# Altium schematic symbol library Componentes Deived Projetos.SchLib: 211 symbols (part 1 of 3)
Pins are listed as number, name and electrical type; pins without a type are passive.

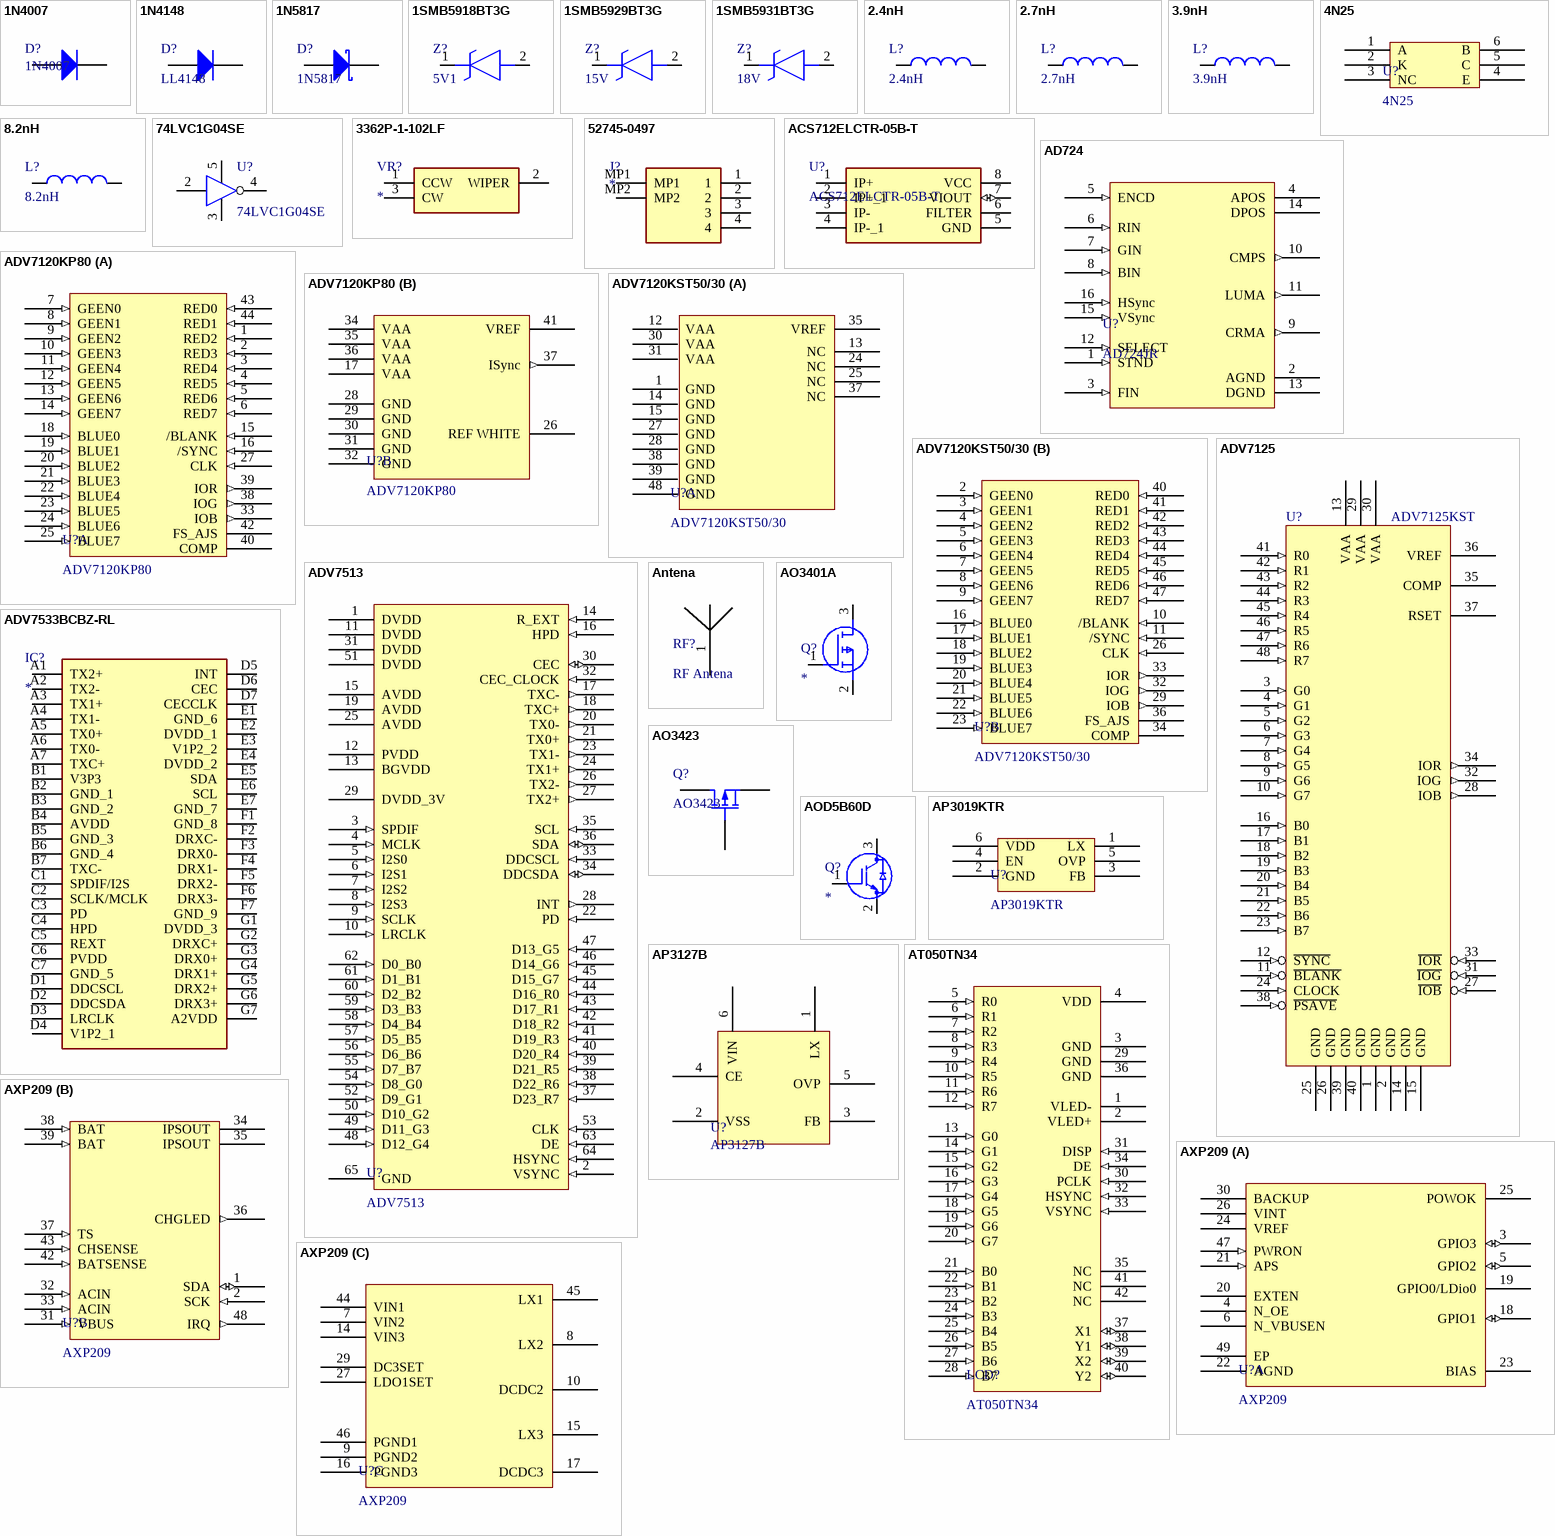
[diagram p0: symbols 1N4007 to AXP209]

## 1N4007
designator D?
1A Rectifier Diodes
footprint DO41
pins: 1 A, 2 K

## 1N4148
designator D?, comment LL4148
Small Signal Fast Switching Diode
footprint MELFDIODE
pins: 1 K, 2 A

## 1N5817
designator D?
Schottky diode Barrier Rectifier
pins: A, K

## 1SMB5918BT3G
designator Z?, comment 5V1
3 Watt Plastic Surface Mount Zener Voltage Regulators; Manufacturer_Name: ON Semiconductor; Manufacturer_Part_Number: 1SMB5931BT3G; Datasheet Link: http://www.onsemi.com/pub/Collateral/1SMB5913BT3-D.PDF; Height: 2.47mm; Mouser Part Number: 863-1SMB5931BT3G; Mouser Price/Stock: https://www.mouser.co.uk/ProductDetail/ON-Semiconductor/1SMB5931BT3G/?qs=vLkC5FC1VN903PRAv1AUyg%3D%3D; Arrow Part Number: 1SMB5931BT3G; Arrow Price/Stock: https://www.arrow.com/en/products/1smb5931bt3g/on-semiconductor
footprint DIOM5436X247N
pins: 1 K, 2 A

## 1SMB5929BT3G
designator Z?, comment 15V
3 Watt Plastic Surface Mount Zener Voltage Regulators; Manufacturer_Name: ON Semiconductor; Manufacturer_Part_Number: 1SMB5931BT3G; Datasheet Link: http://www.onsemi.com/pub/Collateral/1SMB5913BT3-D.PDF; Height: 2.47mm; Mouser Part Number: 863-1SMB5931BT3G; Mouser Price/Stock: https://www.mouser.co.uk/ProductDetail/ON-Semiconductor/1SMB5931BT3G/?qs=vLkC5FC1VN903PRAv1AUyg%3D%3D; Arrow Part Number: 1SMB5931BT3G; Arrow Price/Stock: https://www.arrow.com/en/products/1smb5931bt3g/on-semiconductor
footprint DIOM5436X247N
pins: 1 K, 2 A

## 1SMB5931BT3G
designator Z?, comment 18V
3 Watt Plastic Surface Mount Zener Voltage Regulators; Manufacturer_Name: ON Semiconductor; Manufacturer_Part_Number: 1SMB5931BT3G; Datasheet Link: http://www.onsemi.com/pub/Collateral/1SMB5913BT3-D.PDF; Height: 2.47mm; Mouser Part Number: 863-1SMB5931BT3G; Mouser Price/Stock: https://www.mouser.co.uk/ProductDetail/ON-Semiconductor/1SMB5931BT3G/?qs=vLkC5FC1VN903PRAv1AUyg%3D%3D; Arrow Part Number: 1SMB5931BT3G; Arrow Price/Stock: https://www.arrow.com/en/products/1smb5931bt3g/on-semiconductor
footprint DIOM5436X247N
pins: 1 K, 2 A

## 2.4nH
designator L?
Chip Inductor +-5%
footprint 0603L
pins: 1, 2

## 2.7nH
designator L?
Chip Inductor +-5%
footprint 0603L
pins: 1, 2

## 3.9nH
designator L?
Chip Inductor +-5%
footprint 0603L
pins: 1, 2

## 4N25
designator U?
Optocoupler, Phototransistor Output, with Base Connection
footprint DIP6
pins: 1 A, 2 K, 3 NC, 4 E, 5 C, 6 B

## 8.2nH
designator L?
Chip Inductor +-5%
footprint 0603L
pins: 1, 2

## 74LVC1G04SE
designator U?
Single inverter gate with a standard push-pull output. (1.65V to 5.5V); Footprint: SOT353
pins: 1 NC hidden, 2 A, 3 GND, 4 Y, 5 VCC

## 3362P-1-102LF
designator VR?
Variable Resistor
footprint 3362P_1
pins: 1 CCW, 2 WIPER, 3 CW

## 52745-0497
designator J?
Connector
footprint 527450497
pins: 1, 2, 3, 4, MP1, MP2

## ACS712ELCTR-05B-T
designator U?
Fully Integrated, Hall Effect-Based Linear Current Sensor / with 2.1 kVRMS Voltage Isolation and a Low-Resistance Current Conductor
footprint SOIC127P600X175-8N
pins: 1 IP+, 2 IP+_1, 3 IP-, 4 IP-_1, 5 GND (power), 6 FILTER, 7 VIOUT (io), 8 VCC (power)

## AD724
designator U?, comment AD724JR
RGB para NTSC-Video
footprint SOIC16 WISE BODY
pins: 1 STND (in), 2 AGND (power), 3 FIN (in), 4 APOS (power), 5 ENCD (in), 6 RIN (in), 7 GIN (in), 8 BIN (in), 9 CRMA (out), 10 CMPS (out), 11 LUMA (out), 12 SELECT (in), 13 DGND (power), 14 DPOS (power), 15 VSync (in), 16 HSync (in)

## ADV7120KP80
designator U?
CMOS  80 MHz, Triple 8-Bit Video DAC
footprint P- 44A
part A pins: 1 RED2 (in), 2 RED3 (in), 3 RED4 (in), 4 RED5 (in), 5 RED6 (in), 6 RED7 (in), 7 GEEN0 (in), 8 GEEN1 (in), 9 GEEN2 (in), 10 GEEN3 (in), 11 GEEN4 (in), 12 GEEN5 (in), 13 GEEN6 (in), 14 GEEN7 (in), 15 /BLANK (in), 16 /SYNC (in), 18 BLUE0 (in), 19 BLUE1 (in), 20 BLUE2 (in), 21 BLUE3 (in), 22 BLUE4 (in), 23 BLUE5 (in), 24 BLUE6 (in), 25 BLUE7 (in), 27 CLK (in), 33 IOB (out), 38 IOG (out), 39 IOR (out), 40 COMP, 42 FS_AJS, 43 RED0 (in), 44 RED1 (in)
part B pins: 17 VAA, 26 REF WHITE, 28 GND, 29 GND, 30 GND, 31 GND, 32 GND, 34 VAA, 35 VAA, 36 VAA, 37 ISync (out), 41 VREF

## ADV7120KST50/30
designator U?
Triple DAC Video Convert
footprint TQFP-48 - L
part A pins: 1 GND, 12 VAA, 13 NC, 14 GND, 15 GND, 24 NC, 25 NC, 27 GND, 28 GND, 30 VAA, 31 VAA, 35 VREF, 37 NC, 38 GND, 39 GND, 48 GND
part B pins: 2 GEEN0 (in), 3 GEEN1 (in), 4 GEEN2 (in), 5 GEEN3 (in), 6 GEEN4 (in), 7 GEEN5 (in), 8 GEEN6 (in), 9 GEEN7 (in), 10 /BLANK (in), 11 /SYNC (in), 16 BLUE0 (in), 17 BLUE1 (in), 18 BLUE2 (in), 19 BLUE3 (in), 20 BLUE4 (in), 21 BLUE5 (in), 22 BLUE6 (in), 23 BLUE7 (in), 26 CLK (in), 29 IOB (out), 32 IOG (out), 33 IOR (out), 34 COMP, 36 FS_AJS, 40 RED0 (in), 41 RED1 (in), 42 RED2 (in), 43 RED3 (in), 44 RED4 (in), 45 RED5 (in), 46 RED6 (in), 47 RED7 (in)

## ADV7125
designator U?, comment ADV7125KST
footprint LQFP48
pins: 1 GND (power), 2 GND (power), 3 G0 (in), 4 G1 (in), 5 G2 (in), 6 G3 (in), 7 G4 (in), 8 G5 (in), 9 G6 (in), 10 G7 (in), 11 ~{BLANK} (in), 12 ~{SYNC} (in), 13 VAA (power), 14 GND (power), 15 GND (power), 16 B0 (in), 17 B1 (in), 18 B2 (in), 19 B3 (in), 20 B4 (in), 21 B5 (in), 22 B6 (in), 23 B7 (in), 24 CLOCK (in), 25 GND (power), 26 GND (power), 27 ~{IOB} (in), 28 IOB (out), 29 VAA (power), 30 VAA (power), 31 ~{IOG} (in), 32 IOG (out), 33 ~{IOR} (in), 34 IOR (out), 35 COMP, 36 VREF, 37 RSET, 38 ~{PSAVE} (in), 39 GND (power), 40 GND (power), 41 R0 (in), 42 R1 (in), 43 R2 (in), 44 R3 (in), 45 R4 (in), 46 R5 (in), 47 R6 (in), 48 R7 (in)

## ADV7513
designator U?
High Perfomance HDMI Trasmitter
footprint LQFP64
pins: 1 DVDD, 2 VSYNC (in), 3 SPDIF (in), 4 MCLK (in), 5 I2S0 (in), 6 I2S1 (in), 7 I2S2 (in), 8 I2S3 (in), 9 SCLK (in), 10 LRCLK (in), 11 DVDD, 12 PVDD, 13 BGVDD, 14 R_EXT (in), 15 AVDD, 16 HPD (in), 17 TXC- (out), 18 TXC+ (out), 19 AVDD, 20 TX0- (out), 21 TX0+ (out), 22 PD (in), 23 TX1- (out), 24 TX1+ (out), 25 AVDD, 26 TX2- (out), 27 TX2+ (out), 28 INT (out), 29 DVDD_3V, 30 CEC (io), 31 DVDD, 32 CEC_CLOCK (in), 33 DDCSCL (in), 34 DDCSDA (io), 35 SCL (in), 36 SDA (io), 37 D23_R7 (in), 38 D22_R6 (in), 39 D21_R5 (in), 40 D20_R4 (in), 41 D19_R3 (in), 42 D18_R2 (in), 43 D17_R1 (in), 44 D16_R0 (in), 45 D15_G7 (in), 46 D14_G6 (in), 47 D13_G5 (in), 48 D12_G4 (in), 49 D11_G3 (in), 50 D10_G2 (in), 51 DVDD, 52 D9_G1 (in), 53 CLK (in), 54 D8_G0 (in), 55 D7_B7 (in), 56 D6_B6 (in), 57 D5_B5 (in), 58 D4_B4 (in), 59 D3_B3 (in), 60 D2_B2 (in), 61 D1_B1 (in), 62 D0_B0 (in), 63 DE (in), 64 HSYNC (in), 65 GND

## ADV7533BCBZ-RL
designator IC?
Integrated Circuit
footprint BGA49C50P7X7_346X346X66
pins: A1 TX2+, A2 TX2-, A3 TX1+, A4 TX1-, A5 TX0+, A6 TX0-, A7 TXC+, B1 V3P3, B2 GND_1, B3 GND_2, B4 AVDD, B5 GND_3, B6 GND_4, B7 TXC-, C1 SPDIF/I2S, C2 SCLK/MCLK, C3 PD, C4 HPD, C5 REXT, C6 PVDD, C7 GND_5, D1 DDCSCL, D2 DDCSDA, D3 LRCLK, D4 V1P2_1, D5 INT, D6 CEC, D7 CECCLK, E1 GND_6, E2 DVDD_1, E3 V1P2_2, E4 DVDD_2, E5 SDA, E6 SCL, E7 GND_7, F1 GND_8, F2 DRXC-, F3 DRX0-, F4 DRX1-, F5 DRX2-, F6 DRX3-, F7 GND_9, G1 DVDD_3, G2 DRXC+, G3 DRX0+, G4 DRX1+, G5 DRX2+, G6 DRX3+, G7 A2VDD

## Antena
designator RF?, comment RF Antena
Antena RF
pins: 1 "Antena RF"

## AO3401A
designator Q?
MOSFET (P-Channel); Manufacturer_Name: Alpha & Omega Semiconductors; Manufacturer_Part_Number: AO3401A; Datasheet Link: http://www.aosmd.com/pdfs/datasheet/AO3401A.pdf; Height: 1.25mm; Arrow Part Number: AO3401A; Arrow Price/Stock: https://www.arrow.com/en/products/ao3401a/alpha-and-omega-semiconductor?region=nac
footprint SOT95P280X125-3N
pins: 1 G, 2 S, 3 D

## AO3423
designator Q?
20V P-Channel MOSFET
footprint SOT23
pins: 1 D, 2 G, 3 S

## AOD5B60D
designator Q?
600V, 5A Alpha IGBT TM with Diode; Manufacturer_Name: STMicroelectronics; Manufacturer_Part_Number: STGD5NB120SZT4; Datasheet Link: https://www.arrow.com/en/products/stgd5nb120szt4/stmicroelectronics; Height: 2mm; Mouser Part Number: 511-STGD5NB120SZ; Mouser Price/Stock: https://www.mouser.co.uk/ProductDetail/STMicroelectronics/STGD5NB120SZT4?qs=Tj7OqeScv5KzkQtpY0oojQ%3D%3D; Arrow Part Number: STGD5NB120SZT4; Arrow Price/Stock: https://www.arrow.com/en/products/stgd5nb120szt4/stmicroelectronics
footprint LD1117DT33
pins: 1 G, 2 E, 3 C

## AP3019KTR
designator U?
WHITE LED STEP-UP CONVERTER
footprint SOT23-N
pins: 1 LX, 2 GND, 3 FB, 4 EN, 5 OVP, 6 VDD

## AP3127B
designator U?
Step-Up DC/DC Converter Series White LED Backlight Driver
footprint SOT23-N
pins: 1 LX, 2 VSS, 3 FB, 4 CE, 5 OVP, 6 VIN

## AT050TN34
designator LCD?
footprint AT050TN34
pins: 1 VLED- (power), 2 VLED+ (power), 3 GND (power), 4 VDD (power), 5 R0 (in), 6 R1 (in), 7 R2 (in), 8 R3 (in), 9 R4 (in), 10 R5 (in), 11 R6 (in), 12 R7 (in), 13 G0 (in), 14 G1 (in), 15 G2 (in), 16 G3 (in), 17 G4 (in), 18 G5 (in), 19 G6 (in), 20 G7 (in), 21 B0 (in), 22 B1 (in), 23 B2 (in), 24 B3 (in), 25 B4 (in), 26 B5 (in), 27 B6 (in), 28 B7 (in), 29 GND (power), 30 PCLK (in), 31 DISP (in), 32 HSYNC (in), 33 VSYNC (in), 34 DE (in), 35 NC, 36 GND (power), 37 X1 (io), 38 Y1 (io), 39 X2 (io), 40 Y2 (io), 41 NC, 42 NC

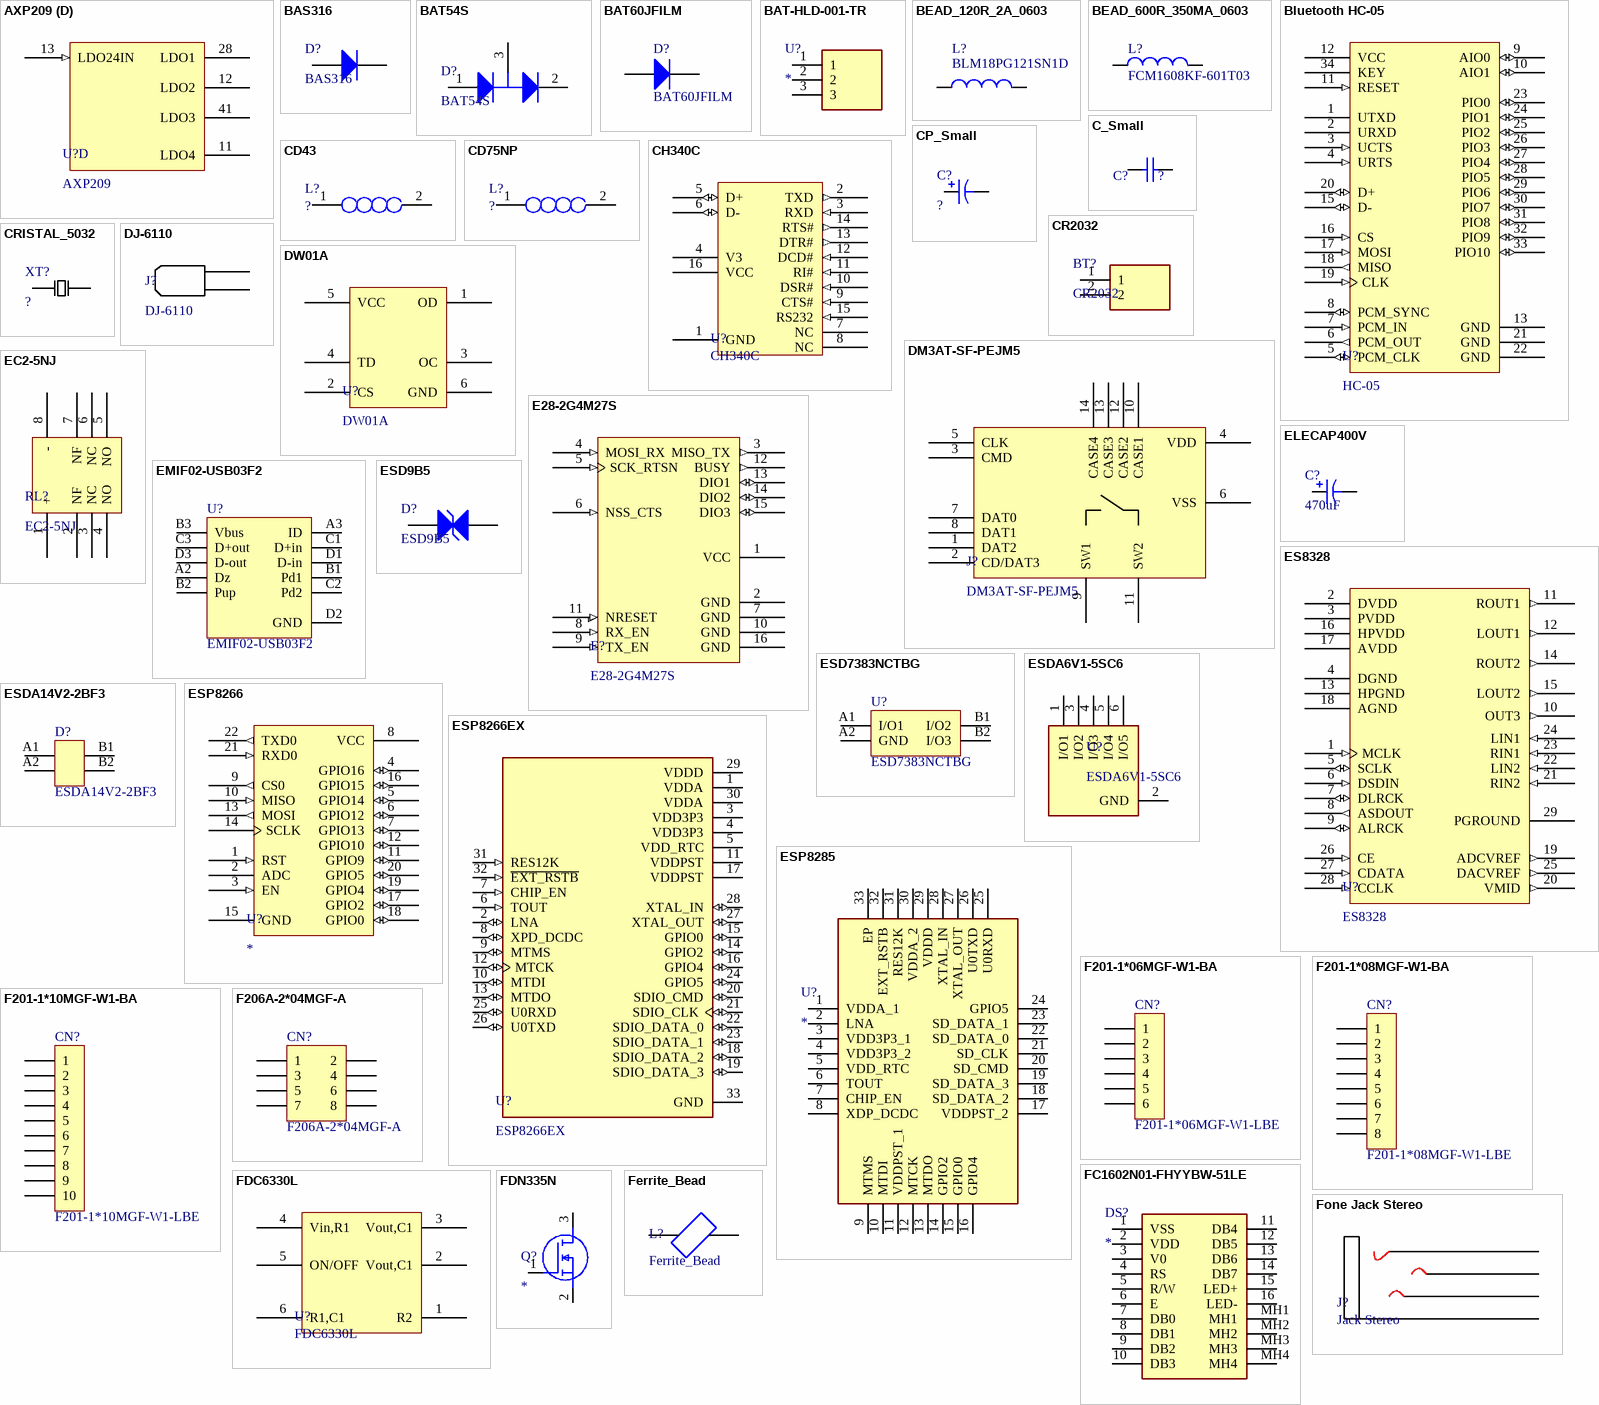
[diagram p1: symbols AXP209 to Fone Jack Stereo]

## AXP209
designator U?
Enhanced single Cell Li-Battery and Power System Management IC
footprint QFN-49
part A pins: 3 GPIO3 (io), 4 N_OE, 5 GPIO2 (io), 6 N_VBUSEN, 18 GPIO1 (io), 19 GPIO0/LDio0, 20 EXTEN, 21 APS (in), 22 AGND, 23 BIAS, 24 VREF, 25 POWOK, 26 VINT, 30 BACKUP, 47 PWRON (in), 49 EP (power)
part B pins: 1 SDA (io), 2 SCK (in), 31 VBUS (in), 32 ACIN (in), 33 ACIN (in), 34 IPSOUT (power), 35 IPSOUT (power), 36 CHGLED (out), 37 TS (in), 38 BAT (in), 39 BAT (in), 42 BATSENSE (in), 43 CHSENSE (in), 48 IRQ (out)
part C pins: 7 VIN2, 8 LX2, 9 PGND2 (power), 10 DCDC2, 14 VIN3, 15 LX3, 16 PGND3 (power), 17 DCDC3, 27 LDO1SET, 29 DC3SET, 44 VIN1, 45 LX1, 46 PGND1 (power)
part D pins: 11 LDO4 (power), 12 LDO2 (power), 13 LDO24IN (in), 28 LDO1 (power), 41 LDO3 (power)

## BAS316
designator D?
Small Signal Fast Switching Diode
footprint SOD323(F)
pins: 1 K, 2 A

## BAT54S
designator D?
Schottky diode Barrier Rectifier
footprint SOT23
pins: 1 A, 2 K, 3 K/A

## BAT60JFILM
designator D?
Revision: July-2002: Re-released for DXP Platform.
footprint DSO-C2/X3.3 (DO-214-AB/SMC; 2 C-Bend Leads; Body 7.9 x 5.9 mm, inc. leads (LxW))
footprint SOD323/A
pins: 1 A, 2 K

## BAT-HLD-001-TR
designator U?
Undefined or Miscellaneous
footprint BATHLD001TR
pins: 1, 2, 3

## BEAD_120R_2A_0603
designator L?, comment BLM18PG121SN1D
Bead,120R,2A,0603,BLM18PG121SN1D,MURATA; Revision: July-2002: Re-released for DXP Platform.
footprint 0603 (Footprint not found)
footprint 0603L
pins: 1, 2

## BEAD_600R_350MA_0603
designator L?, comment FCM1608KF-601T03
Bead,600R,350mA,0603,FCM1608KF-601T03,Tai-tech; Revision: July-2002: Re-released for DXP Platform.
footprint 0603 (Footprint not found)
footprint 0603L
pins: 1, 2

## Bluetooth HC-05
designator U?, comment HC-05
Modulo Bluetooth HC-05
footprint LCC42
pins: 1 UTXD, 2 URXD, 3 UCTS (in), 4 URTS (in), 5 PCM_CLK (io), 6 PCM_OUT (out), 7 PCM_IN (in), 8 PCM_SYNC (io), 9 AIO0 (io), 10 AIO1 (io), 11 RESET (in), 12 VCC (power), 13 GND, 15 D- (io), 16 CS (in), 17 MOSI (in), 18 MISO (out), 19 CLK (in), 20 D+ (io), 21 GND, 22 GND, 23 PIO0 (io), 24 PIO1 (io), 25 PIO2 (io), 26 PIO3 (io), 27 PIO4 (io), 28 PIO5 (io), 29 PIO6 (io), 30 PIO7 (io), 31 PIO8 (io), 32 PIO9 (io), 33 PIO10 (io), 34 KEY

## C_Small
designator C?, comment ?
Revision: July-2002: Re-released for DXP Platform.
footprint 0805C
footprint TAN-A
footprint 0603C
pins: 1, 2

## CD43
designator L?, comment ?
Inductor
footprint CD43NP
pins: 1, 2

## CD75NP
designator L?, comment ?
Inductor
footprint CD75NP
pins: 1, 2

## CH340C
designator U?
footprint NSO16_M (16-Pin Small Outline Integrated Circuit 1.27 mm Pitch, IPC Low Density)
pins: 1 GND, 2 TXD (out), 3 RXD (in), 4 V3, 5 D+ (io), 6 D- (io), 7 NC, 8 NC, 9 CTS# (in), 10 DSR# (in), 11 RI# (in), 12 DCD# (in), 13 DTR# (out), 14 RTS# (out), 15 RS232 (in), 16 VCC

## CP_Small
designator C?, comment ?
Capacitor Eletrolitico
footprint POL_CAP400V
pins: 1, 2

## CR2032
designator BT?
Conector Battery CR2032
footprint socket_CR2032
pins: 1, 2

## CRISTAL_5032
designator XT?, comment ?
Cristal oscilator 5032
footprint 5032
pins: 1, 2

## DJ-6110
designator J?
Terminal Espada Macho DJ-6110 6,3x0,8
footprint DJ-6110
pins: 1, 2

## DM3AT-SF-PEJM5
designator J?
Conector micro SD push/push
footprint SD CARD MICRO
pins: 1 DAT2, 2 CD/DAT3, 3 CMD, 4 VDD, 5 CLK, 6 VSS, 7 DAT0, 8 DAT1, 9 SW1, 10 CASE1, 11 SW2, 12 CASE2, 13 CASE3, 14 CASE4

## DW01A
designator U?
One Cell Lithium-ion/Polymer Battery Protection IC
footprint SOT23-N
pins: 1 OD, 2 CS, 3 OC, 4 TD, 5 VCC, 6 GND

## E28-2G4M27S
designator E?
footprint E28-2G4M27S
pins: 1 VCC, 2 GND, 3 MISO_TX (out), 4 MOSI_RX (in), 5 SCK_RTSN (in), 6 NSS_CTS (in), 7 GND, 8 RX_EN (in), 9 TX_EN (in), 10 GND, 11 NRESET (in), 12 BUSY (out), 13 DIO1 (io), 14 DIO2 (io), 15 DIO3 (io), 16 GND

## EC2-5NJ
designator RL?
NEC Relé 5v EC2-5NJ
pins: 1 +, 2 NF, 3 NC, 4 NO, 5 NO, 6 NC, 7 NF, 8 -

## ELECAP400V
designator C?, comment 470uF
Capacitor Eletrolitico 400V
footprint POL_CAP400V
pins: 1, 2

## EMIF02-USB03F2
designator U?
2-line IPAD, EMI filter including ESD protection
footprint Flip Chip (BGA, 11-Leads, Body 1.5x2mm, Pitch 0.5mm,)
pins: A2 Dz, A3 ID, B1 Pd1, B2 Pup, B3 Vbus, C1 D+in, C2 Pd2, C3 D+out, D1 D-in, D2 GND, D3 D-out

## ES8328
designator U?
Low Power Estereo Audio Codec With HeadPhone Amplifier
footprint QFN-28L
pins: 1 MCLK (in), 2 DVDD (power), 3 PVDD (power), 4 DGND, 5 SCLK (io), 6 DSDIN (in), 7 DLRCK (io), 8 ASDOUT (out), 9 ALRCK (io), 10 OUT3 (out), 11 ROUT1 (out), 12 LOUT1 (out), 13 HPGND, 14 ROUT2 (out), 15 LOUT2 (out), 16 HPVDD (power), 17 AVDD, 18 AGND, 19 ADCVREF (out), 20 VMID (out), 21 RIN2 (in), 22 LIN2 (in), 23 RIN1 (in), 24 LIN1 (in), 25 DACVREF (out), 26 CE (in), 27 CDATA (in), 28 CCLK (in), 29 PGROUND

## ESD9B5
designator D?
ESD PROTECTION DIODE
footprint SOD-923
pins: 1, 2

## ESD7383NCTBG
designator U?
3-line low capacitance protection for high speed USB
footprint ESD_WLCSP4_CASE-567CB_0P80X0P80_P040
pins: A1 I/O1, A2 GND, B1 I/O2, B2 I/O3

## ESDA6V1-5SC6
designator U?
TRANSIL™ ARRAY FOR ESD PROTECTION
footprint SOT95P280X100-6N
pins: 1 I/O1, 2 GND, 3 I/O2, 4 I/O3, 5 I/O4, 6 I/O5

## ESDA14V2-2BF3
designator D?
Quad bidirectional Transil array for ESD protection
footprint BGA4_1X1 (Footprint not found)
pins: A1, A2, B1, B2

## ESP8266
designator U?
Modulo WIFI ESP8266
footprint LCC28
pins: 1 RST (in), 2 ADC, 3 EN (in), 4 GPIO16 (io), 5 GPIO14 (io), 6 GPIO12 (io), 7 GPIO13 (io), 8 VCC, 9 CS0 (out), 10 MISO (in), 11 GPIO9 (io), 12 GPIO10 (io), 13 MOSI (out), 14 SCLK, 15 GND, 16 GPIO15 (io), 17 GPIO2 (io), 18 GPIO0 (io), 19 GPIO4 (io), 20 GPIO5 (io), 21 RXD0 (in), 22 TXD0 (out)

## ESP8266EX
designator U?
IC RF TxRx + MCU WiFi 802.11b/g/n 2.4GHz 32-VFQFN Exposed Pad; MF: Espressif Systems; SnapEDA_Link: https://www.snapeda.com/parts/ESP8266EX/Espressif%20Systems/view-part/555861/?ref=snap; Value: *; Purchase-URL: https://pricing.snapeda.com/search/part/ESP8266EX/?ref=eda; Price: None; Availability: Warning; MP: ESP8266EX; Package: VFQFN-32 Espressif Systems; Check_prices: https://www.snapeda.com/parts/ESP8266EX/Espressif%20Systems/view-part/555861/?ref=eda
footprint QFN50P500X500X80-33N
pins: 1 VDDA (power), 2 LNA (io), 3 VDD3P3 (power), 4 VDD3P3 (power), 5 VDD_RTC (power), 6 TOUT (in), 7 CHIP_EN (in), 8 XPD_DCDC (io), 9 MTMS (io), 10 MTDI (io), 11 VDDPST (power), 12 MTCK (io), 13 MTDO (io), 14 GPIO2 (io), 15 GPIO0 (io), 16 GPIO4 (io), 17 VDDPST (power), 18 SDIO_DATA_2 (io), 19 SDIO_DATA_3 (io), 20 SDIO_CMD (io), 21 SDIO_CLK (io), 22 SDIO_DATA_0 (io), 23 SDIO_DATA_1 (io), 24 GPIO5 (io), 25 U0RXD (io), 26 U0TXD (io), 27 XTAL_OUT (io), 28 XTAL_IN (io), 29 VDDD (power), 30 VDDA (power), 31 RES12K (in), 32 ~{EXT_RSTB} (in), 33 GND (power)

## ESP8285
designator U?
Integrated Circuit; Manufacturer_Name: Espressif Systems; Manufacturer_Part_Number: ESP8285; Datasheet Link: http://espressif.com/sites/default/files/documentation/0a-esp8285_datasheet_en.pdf; Height: 0.9mm; Mouser Part Number: 356-ESP8285; Mouser Price/Stock: https://www.mouser.co.uk/ProductDetail/Espressif-Systems/ESP8285?qs=chTDxNqvsyn49Ad%252BqWdhIQ%3D%3D
footprint QFN50P500X500X90-33N-D
pins: 1 VDDA_1, 2 LNA, 3 VDD3P3_1, 4 VDD3P3_2, 5 VDD_RTC, 6 TOUT, 7 CHIP_EN, 8 XDP_DCDC, 9 MTMS, 10 MTDI, 11 VDDPST_1, 12 MTCK, 13 MTDO, 14 GPIO2, 15 GPIO0, 16 GPIO4, 17 VDDPST_2, 18 SD_DATA_2, 19 SD_DATA_3, 20 SD_CMD, 21 SD_CLK, 22 SD_DATA_0, 23 SD_DATA_1, 24 GPIO5, 25 U0RXD, 26 U0TXD, 27 XTAL_OUT, 28 XTAL_IN, 29 VDDD, 30 VDDA_2, 31 RES12K, 32 EXT_RSTB, 33 EP

## F201-1*06MGF-W1-BA
designator CN?, comment F201-1*06MGF-W1-LBE
Header, 6-Pins, Single row, female SMD
footprint HDR2X17 (Connector; Header; 17x2 Position)
signal-integrity model Connector
footprint 1*6P_FEMALE (Footprint not found)
footprint 1*6P_FEMALE_SMD
footprint SSW-106-22-X-S-VS
footprint F201-1*06MGF-W1-BA (Footprint not found)
pins: 1, 2, 3, 4, 5, 6

## F201-1*08MGF-W1-BA
designator CN?, comment F201-1*08MGF-W1-LBE
Header, 8-Pins, Single row, female SMD
signal-integrity model Connector
footprint F201-1*08MGF-W1-BA (Footprint not found)
pins: 1, 2, 3, 4, 5, 6, 7, 8

## F201-1*10MGF-W1-BA
designator CN?, comment F201-1*10MGF-W1-LBE
Header, 10-Pins, Single row, female SMD
signal-integrity model Connector
footprint F201-1*10MGF-W1-BA (Footprint not found)
pins: 1, 2, 3, 4, 5, 6, 7, 8, 9, 10

## F206A-2*04MGF-A
designator CN?
Header, 5-Pins, Horizontal Dual row, female SMD; Revision: 17-Jul-2002: Re-released for DXP Platform.
footprint SSM-104-L-DH
footprint F206A-2*04MGF-A (Footprint not found)
pins: 1, 2, 3, 4, 5, 6, 7, 8

## FC1602N01-FHYYBW-51LE
designator DS?
Display
footprint FC1602N01FHYYBW51LE
pins: 1 VSS, 2 VDD, 3 V0, 4 RS, 5 R/W, 6 E, 7 DB0, 8 DB1, 9 DB2, 10 DB3, 11 DB4, 12 DB5, 13 DB6, 14 DB7, 15 LED+, 16 LED-, MH1, MH2, MH3, MH4

## FDC6330L
designator U?
This device is particularly suited for compact power / management in portable electronic equipment where 3V / to 20V input and 2.3A output current capability are needed.
footprint SOT23-N
pins: 1 R2, 2 Vout,C1, 3 Vout,C1, 4 Vin,R1, 5 ON/OFF, 6 R1,C1

## FDN335N
designator Q?
MOSFET (N-Channel); Manufacturer_Name: ON Semiconductor; Manufacturer_Part_Number: FDN335N; Datasheet Link: https://pdf1.alldatasheet.com/datasheet-pdf/view/51379/FAIRCHILD/FDN335N.html; Height: 1.12mm; Mouser Part Number: 512-FDN335N; Mouser Price/Stock: https://www.mouser.co.uk/ProductDetail/ON-Semiconductor-Fairchild/FDN335N?qs=mdiO5HdF0KhZ%2F6bKTj3K6A%3D%3D; Arrow Part Number: FDN335N; Arrow Price/Stock: https://www.arrow.com/en/products/fdn335n/on-semiconductor
footprint SOT95P251X112-3N
pins: 1 G, 2 S, 3 D

## Ferrite_Bead
designator L?
Ferrite Bead; Revision: July-2002: Re-released for DXP Platform.
footprint 0603 (Footprint not found)
footprint 0603L
footprint 1206L
pins: 1, 2

## Fone Jack Stereo
designator J?, comment Jack Stereo
footprint PJ320A
pins: 2, 3, 4, 5 (power)

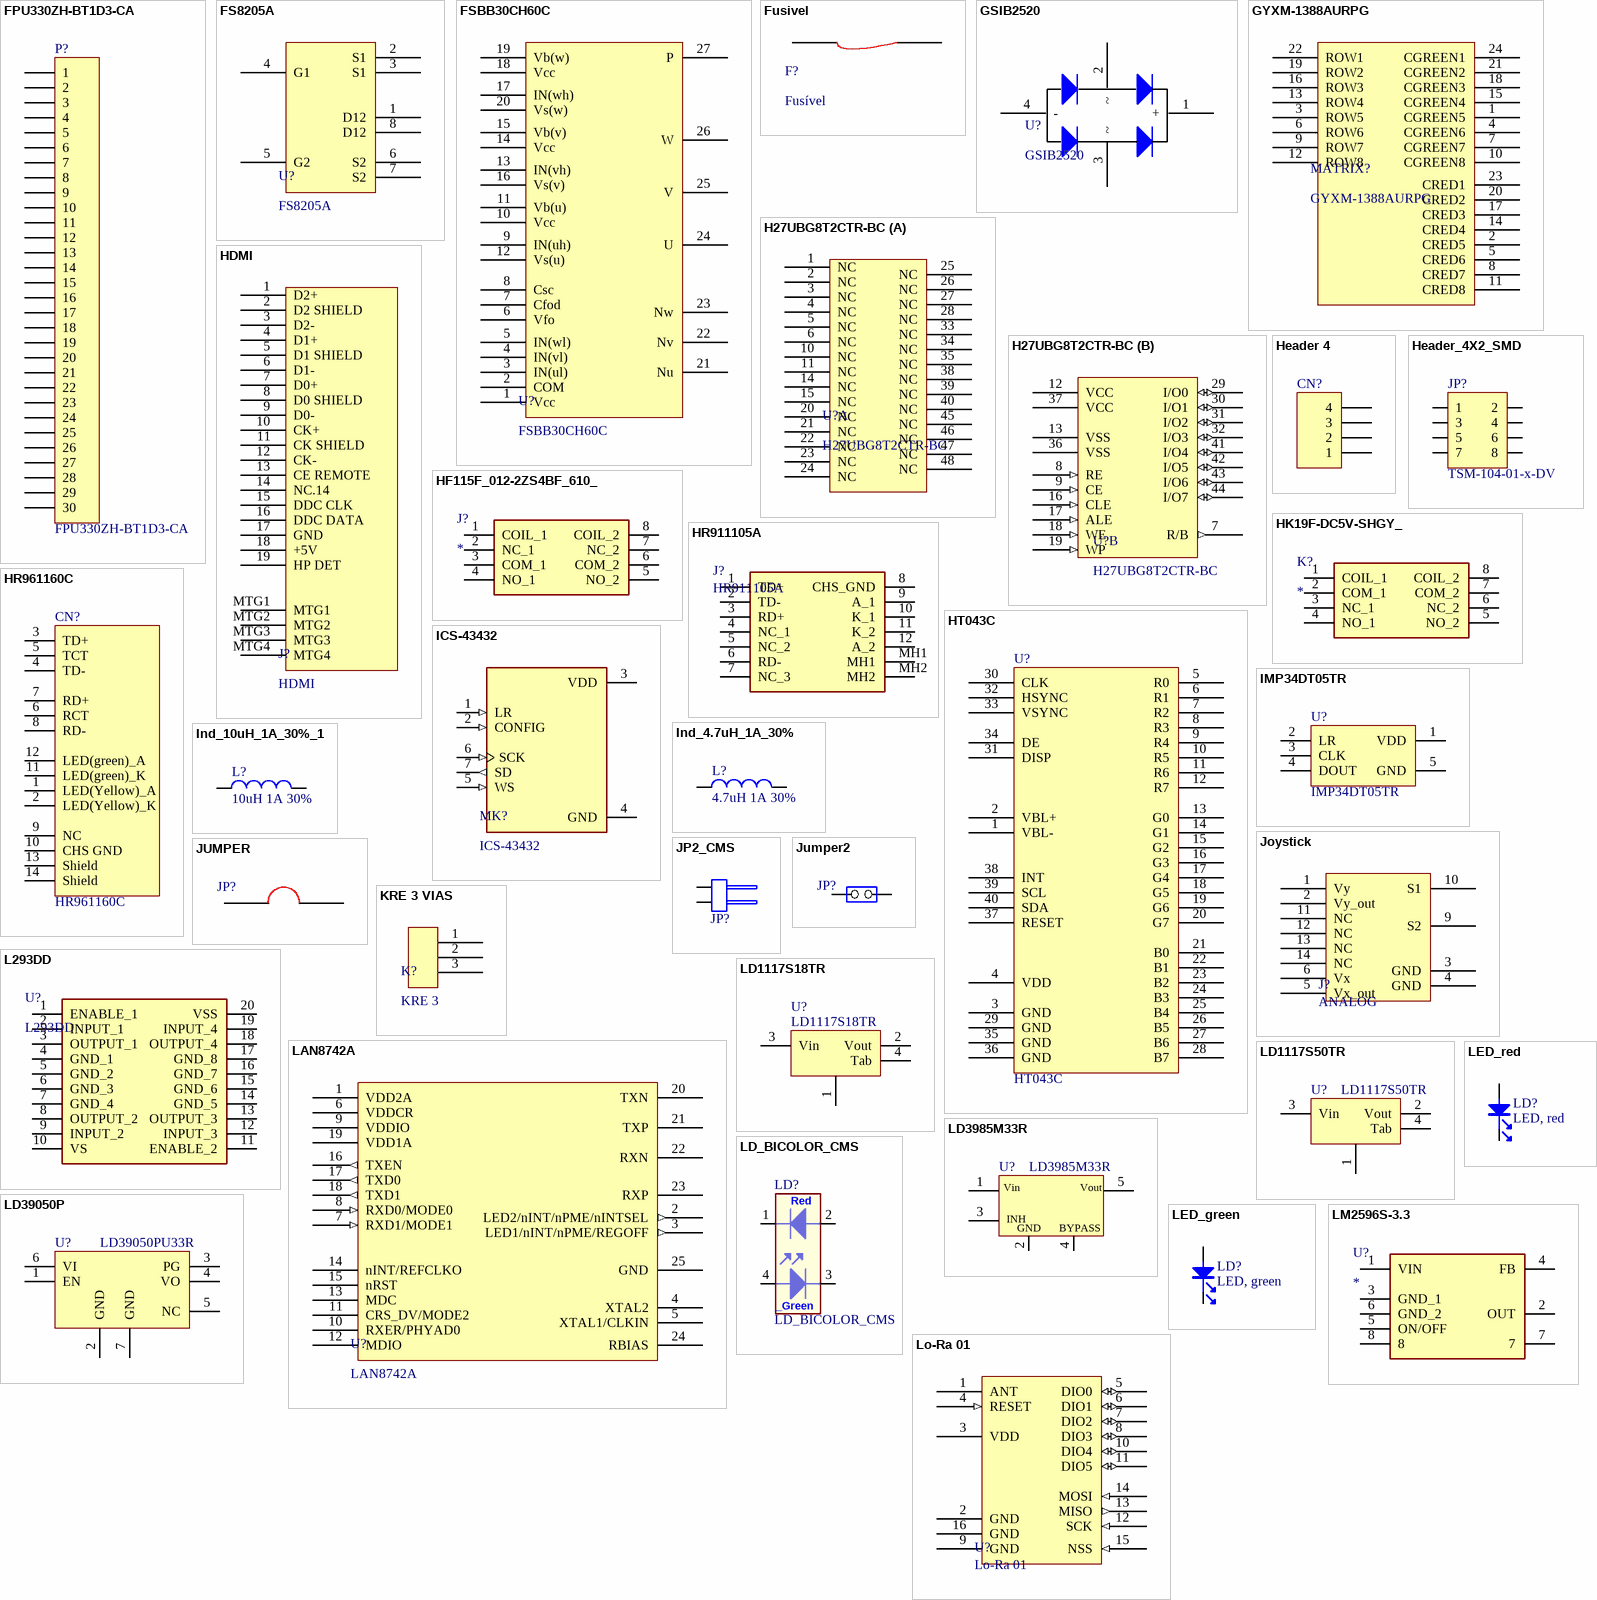
[diagram p2: symbols FPU330ZH-BT1D3-CA to Lo-Ra 01]

## FPU330ZH-BT1D3-CA
designator P?
TOWNES -  Connector FFC/FPC ZIF 0.5mm 30 pins, Lower Contacts
signal-integrity model Connector
footprint FPU330ZH-BT1D3-CA (Footprint not found)
pins: 1, 2, 3, 4, 5, 6, 7, 8, 9, 10, 11, 12, 13, 14, 15, 16, 17, 18, 19, 20, 21, 22, 23, 24, 25, 26, 27, 28, 29, 30

## FS8205A
designator U?
Dual N-Channel Enhancement Mode Power MOSFET
footprint TSSOP8 (Shrink Small Outline, Plastic, Thin; 8 Leads; Body Width 4.4 mm; Pitch 0.65 mm)
pins: 1 D12, 2 S1, 3 S1, 4 G1, 5 G2, 6 S2, 7 S2, 8 D12

## FSBB30CH60C
designator U?
Smart Power Module
footprint NADA_VER
pins: 1 Vcc, 2 COM, 3 IN(ul), 4 IN(vl), 5 IN(wl), 6 Vfo, 7 Cfod, 8 Csc, 9 IN(uh), 10 Vcc, 11 Vb(u), 12 Vs(u), 13 IN(vh), 14 Vcc, 15 Vb(v), 16 Vs(v), 17 IN(wh), 18 Vcc, 19 Vb(w), 20 Vs(w), 21 Nu, 22 Nv, 23 Nw, 24 U, 25 V, 26 W, 27 P

## Fusivel
designator F?, comment Fusível
Porta Fusível 250V 5x20
footprint AS-06
pins: 1, 2

## GSIB2520
designator U?
Single-Phase Single In-Line Bridge Rectifiers
footprint Single-Phase Single In-Line Bridge Rectifiers
pins: 1 +, 2 ~, 3 ~, 4 -

## GYXM-1388AURPG
designator MATRIX?
Dot Matrix Display
footprint DIP24
pins: 1 CGREEN5, 2 CRED5, 3 ROW5, 4 CGREEN6, 5 CRED6, 6 ROW6, 7 CGREEN7, 8 CRED7, 9 ROW7, 10 CGREEN8, 11 CRED8, 12 ROW8, 13 ROW4, 14 CRED4, 15 CGREEN4, 16 ROW3, 17 CRED3, 18 CGREEN3, 19 ROW2, 20 CRED2, 21 CGREEN2, 22 ROW1, 23 CRED1, 24 CGREEN1

## H27UBG8T2CTR-BC
designator U?
32Gb(4096M x 8bit) Nand Flash
footprint TSOP-48
part A pins: 1 NC, 2 NC, 3 NC, 4 NC, 5 NC, 6 NC, 10 NC, 11 NC, 14 NC, 15 NC, 20 NC, 21 NC, 22 NC, 23 NC, 24 NC, 25 NC, 26 NC, 27 NC, 28 NC, 33 NC, 34 NC, 35 NC, 38 NC, 39 NC, 40 NC, 45 NC, 46 NC, 47 NC, 48 NC
part B pins: 7 R/B (out), 8 RE (in), 9 CE (in), 12 VCC, 13 VSS, 16 CLE (in), 17 ALE (in), 18 WE (in), 19 WP (in), 29 I/O0 (io), 30 I/O1 (io), 31 I/O2 (io), 32 I/O3 (io), 36 VSS, 37 VCC, 41 I/O4 (io), 42 I/O5 (io), 43 I/O6 (io), 44 I/O7 (io)

## HDMI
designator J?
CONECTOR HDMI
footprint HDMI
pins: 1 D2+, 2 D2 SHIELD, 3 D2-, 4 D1+, 5 D1 SHIELD, 6 D1-, 7 D0+, 8 D0 SHIELD, 9 D0-, 10 CK+, 11 CK SHIELD, 12 CK-, 13 CE REMOTE, 14 NC.14, 15 DDC CLK, 16 DDC DATA, 17 GND, 18 +5V, 19 HP DET, MTG1, MTG2, MTG3, MTG4

## Header 4
designator CN?  (value not drawn)
Header, 4-Pin; Revision: 17-Jul-2002: Re-released for DXP Platform.
signal-integrity model Connector
footprint Header 4
pins: 1, 2, 3, 4

## Header_4X2_SMD
designator JP?, comment TSM-104-01-x-DV
Header, 4-Pins, Double row Vertical, SMD, 2.54
signal-integrity model Connector
footprint TSM-104-01-x-DV (Footprint not found)
pins: 1, 2, 3, 4, 5, 6, 7, 8

## HF115F_012-2ZS4BF_610_
designator J?
Connector
footprint HF115F0122ZS4BF610
pins: 1 COIL_1, 2 NC_1, 3 COM_1, 4 NO_1, 5 NO_2, 6 COM_2, 7 NC_2, 8 COIL_2

## HK19F-DC5V-SHGY_
designator K?
Relay or Contactor
footprint HK19FDC5VSHGY
pins: 1 COIL_1, 2 COM_1, 3 NC_1, 4 NO_1, 5 NO_2, 6 NC_2, 7 COM_2, 8 COIL_2

## HR911105A
designator J?
Single Port RJ45 Connector with Module and LED
footprint HR911105A
pins: 1 TD+, 2 TD-, 3 RD+, 4 NC_1, 5 NC_2, 6 RD-, 7 NC_3, 8 CHS_GND, 9 A_1, 10 K_1, 11 K_2, 12 A_2, MH1, MH2

## HR961160C
designator CN?
100 Base-TX (Fast Ethernet) SMD RJ45 single port (1x1) with LEDS Integrated Magnetics Connector
pins: 1 LED(Yellow)_A, 2 LED(Yellow)_K, 3 TD+, 4 TD-, 5 TCT, 6 RCT, 7 RD+, 8 RD-, 9 NC, 10 CHS GND, 11 LED(green)_K, 12 LED(green)_A, 13 Shield, 14 Shield

## HT043C
designator U?
4.3 inch TFT 480*272 pixels with LED Backlight and Capacitive touch panel, high luminance
footprint LCD_Kunjian_ HT043C_40P_P080_FLEX_FOLDED
pins: 1 VBL-, 2 VBL+, 3 GND, 4 VDD, 5 R0, 6 R1, 7 R2, 8 R3, 9 R4, 10 R5, 11 R6, 12 R7, 13 G0, 14 G1, 15 G2, 16 G3, 17 G4, 18 G5, 19 G6, 20 G7, 21 B0, 22 B1, 23 B2, 24 B3, 25 B4, 26 B5, 27 B6, 28 B7, 29 GND, 30 CLK, 31 DISP, 32 HSYNC, 33 VSYNC, 34 DE, 35 GND, 36 GND, 37 RESET, 38 INT, 39 SCL, 40 SDA

## ICS-43432
designator MK?
50Hz ~ 20kHz Digital, IÂ²S Microphone MEMS (Silicon) 1.62V ~ 3.63V Omnidirectional (-26dB Â±1dB @ 94dB SPL) Solder Pads; MF: TDK InvenSense; MP: ICS-43432; Purchase-URL: https://pricing.snapeda.com/search/part/ICS-43432/?ref=eda; SnapEDA_Link: https://www.snapeda.com/parts/ICS-43432/TDK%20InvenSense/view-part/4702015/?ref=snap; Availability: Good; Package: QFN-16 TDK InvenSense; Value: *; Price: None
footprint MIC_ICS-43432
pins: 1 LR (in), 2 CONFIG (in), 3 VDD (power), 4 GND (power), 5 WS (in), 6 SCK (in), 7 SD (out)

## IMP34DT05TR
designator U?
MEMS audio sensor omnidirectional digital microphone for industrial applications
footprint HCLGA_3X4X1_4LD
pins: 1 VDD, 2 LR, 3 CLK, 4 DOUT, 5 GND

## Ind_4.7uH_1A_30%
designator L?, comment 4.7uH 1A 30%
FIXED IND 4.7UH 1A 180 MOHM 30% SMD
footprint 1210L (Footprint not found)
pins: 1, 2

## Ind_10uH_1A_30%_1
designator L?, comment 10uH 1A 30%
FIXED IND 10UH 1A 180 MOHM 30% SMD
footprint 0603L
pins: 1, 2

## Joystick
designator J?, comment ANALOG
footprint Joystick
pins: 1 Vy, 2 Vy_out, 3 GND, 4 GND, 5 Vx_out, 6 Vx, 9 S2, 10 S1, 11 NC, 12 NC, 13 NC, 14 NC

## JP2_CMS
designator JP?, comment TSM-102-01-F-SH-A  (value not drawn)
Header, 2-Pins, Single row Horizontal SMD, 2.54
footprint TSM-102-01-F-SH-A
pins: 1 COMMON, 2 NO

## JUMPER
designator JP?  (value not drawn)
footprint 0603
pins: 1 A, 2 B

## Jumper2
designator JP?, comment Jumper 2 pins  (value not drawn)
footprint SIP2/2.54
pins: 1 COMMON, 2 NO

## KRE 3 VIAS
designator K?, comment KRE 3
BORNE KRE 3 VIAS
footprint KRE 3 VIAS
pins: 1, 2, 3

## L293DD
designator U?
PUSH-PULL FOUR CHANNEL DRIVER WITH DIODES; Manufacturer_Name: STMicroelectronics; Datasheet Link: https://www.st.com/resource/en/datasheet/l293d.pdf; Height: 2.65mm; Manufacturer_Part_Number: L293DD; Mouser Part Number: 511-L293DD; Mouser Price/Stock: https://www.mouser.co.uk/ProductDetail/STMicroelectronics/L293DD?qs=m4gxtLzGBzoksItTiSkcgg%3D%3D; Arrow Part Number: L293DD; Arrow Price/Stock: https://www.arrow.com/en/products/l293dd/stmicroelectronics?region=nac
footprint SOIC127P1032X265-20N
pins: 1 ENABLE_1, 2 INPUT_1, 3 OUTPUT_1, 4 GND_1, 5 GND_2, 6 GND_3, 7 GND_4, 8 OUTPUT_2, 9 INPUT_2, 10 VS, 11 ENABLE_2, 12 INPUT_3, 13 OUTPUT_3, 14 GND_5, 15 GND_6, 16 GND_7, 17 GND_8, 18 OUTPUT_4, 19 INPUT_4, 20 VSS

## LAN8742A
designator U?
footprint Quad24
footprint QFN50P400X400X100-25N-D
pins: 1 VDD2A, 2 LED2/nINT/nPME/nINTSEL (out), 3 LED1/nINT/nPME/REGOFF (out), 4 XTAL2, 5 XTAL1/CLKIN, 6 VDDCR, 7 RXD1/MODE1 (in), 8 RXD0/MODE0 (in), 9 VDDIO, 10 RXER/PHYAD0, 11 CRS_DV/MODE2, 12 MDIO, 13 MDC, 14 nINT/REFCLKO, 15 nRST, 16 TXEN (out), 17 TXD0 (out), 18 TXD1 (out), 19 VDD1A, 20 TXN, 21 TXP, 22 RXN, 23 RXP, 24 RBIAS, 25 GND

## LD1117S18TR
designator U?
LOW DROP FIXED AND ADJUSTABLE POSITIVE VOLTAGE REGULATORS (1.8 Volts)
footprint SOT-223
pins: 1, 2 Vout, 3 Vin, 4 Tab
2 alternate drawings of the same symbol

## LD1117S50TR
designator U?
IC REG LDO 5V 0.8A SOT223
footprint SOT-223
pins: 1, 2 Vout, 3 Vin, 4 Tab
2 alternate drawings of the same symbol

## LD3985M33R
designator U?
Ultra low drop-low noise BiCMOS voltage, regulators low ESR capacitors compatible
footprint SOT23-5L
pins: 1 Vin, 2 GND, 3 CE, 4 BYPASS, 5 Vout
text: INH

## LD39050P
designator U?, comment LD39050PU33R
Ultra low drop-low , 500 mA low quiescent current
footprint DFN6_3x3 (Footprint not found)
pins: 1 EN, 2 GND, 3 PG, 4 VO, 5 NC, 6 VI, 7 GND
2 alternate drawings of the same symbol

## LD_BICOLOR_CMS
designator LD?
Bicolor Led; Footprint: HSMF-A201
footprint HSMF-A201
pins: 1, 2, 3, 4
text: Red; _Green

## LED_green
designator LD?, comment LED, green
LED, green, 0603
footprint D0603
footprint 0603D
pins: 1, 2
2 alternate drawings of the same symbol

## LED_red
designator LD?, comment LED, red
LED, red, 0603
footprint D0603
footprint 0603D
pins: 1, 2
2 alternate drawings of the same symbol

## LM2596S-3.3
designator U?
LM2596 SIMPLE SWITCHER® Power Converter 150-kHz / 3-A Step-Down Voltage Regulator; Manufacturer_Name: Texas Instruments; Manufacturer_Part_Number: LM2596S-3.3; Datasheet Link: http://www.ti.com/lit/ds/symlink/lm2596.pdf; Height: 4.65mm; Mouser Part Number: 926-LM2596S-33; Mouser Price/Stock: https://www.mouser.co.uk/ProductDetail/Texas-Instruments/LM2596S-33?qs=X1J7HmVL2ZHnG50G34wg0g%3D%3D; Arrow Part Number: LM2596S-3.3; Arrow Price/Stock: https://www.arrow.com/en/products/lm2596s-3.3/texas-instruments?region=nac
footprint LM2596S33
pins: 1 VIN, 2 OUT, 3 GND_1, 4 FB, 5 ON/OFF, 6 GND_2, 7, 8

## Lo-Ra 01
designator U?
footprint Lo-Ra 01
pins: 1 ANT, 2 GND, 3 VDD, 4 RESET (in), 5 DIO0 (io), 6 DIO1 (io), 7 DIO2 (io), 8 DIO3 (io), 9 GND, 10 DIO4 (io), 11 DIO5 (io), 12 SCK (in), 13 MISO (out), 14 MOSI (in), 15 NSS (in), 16 GND

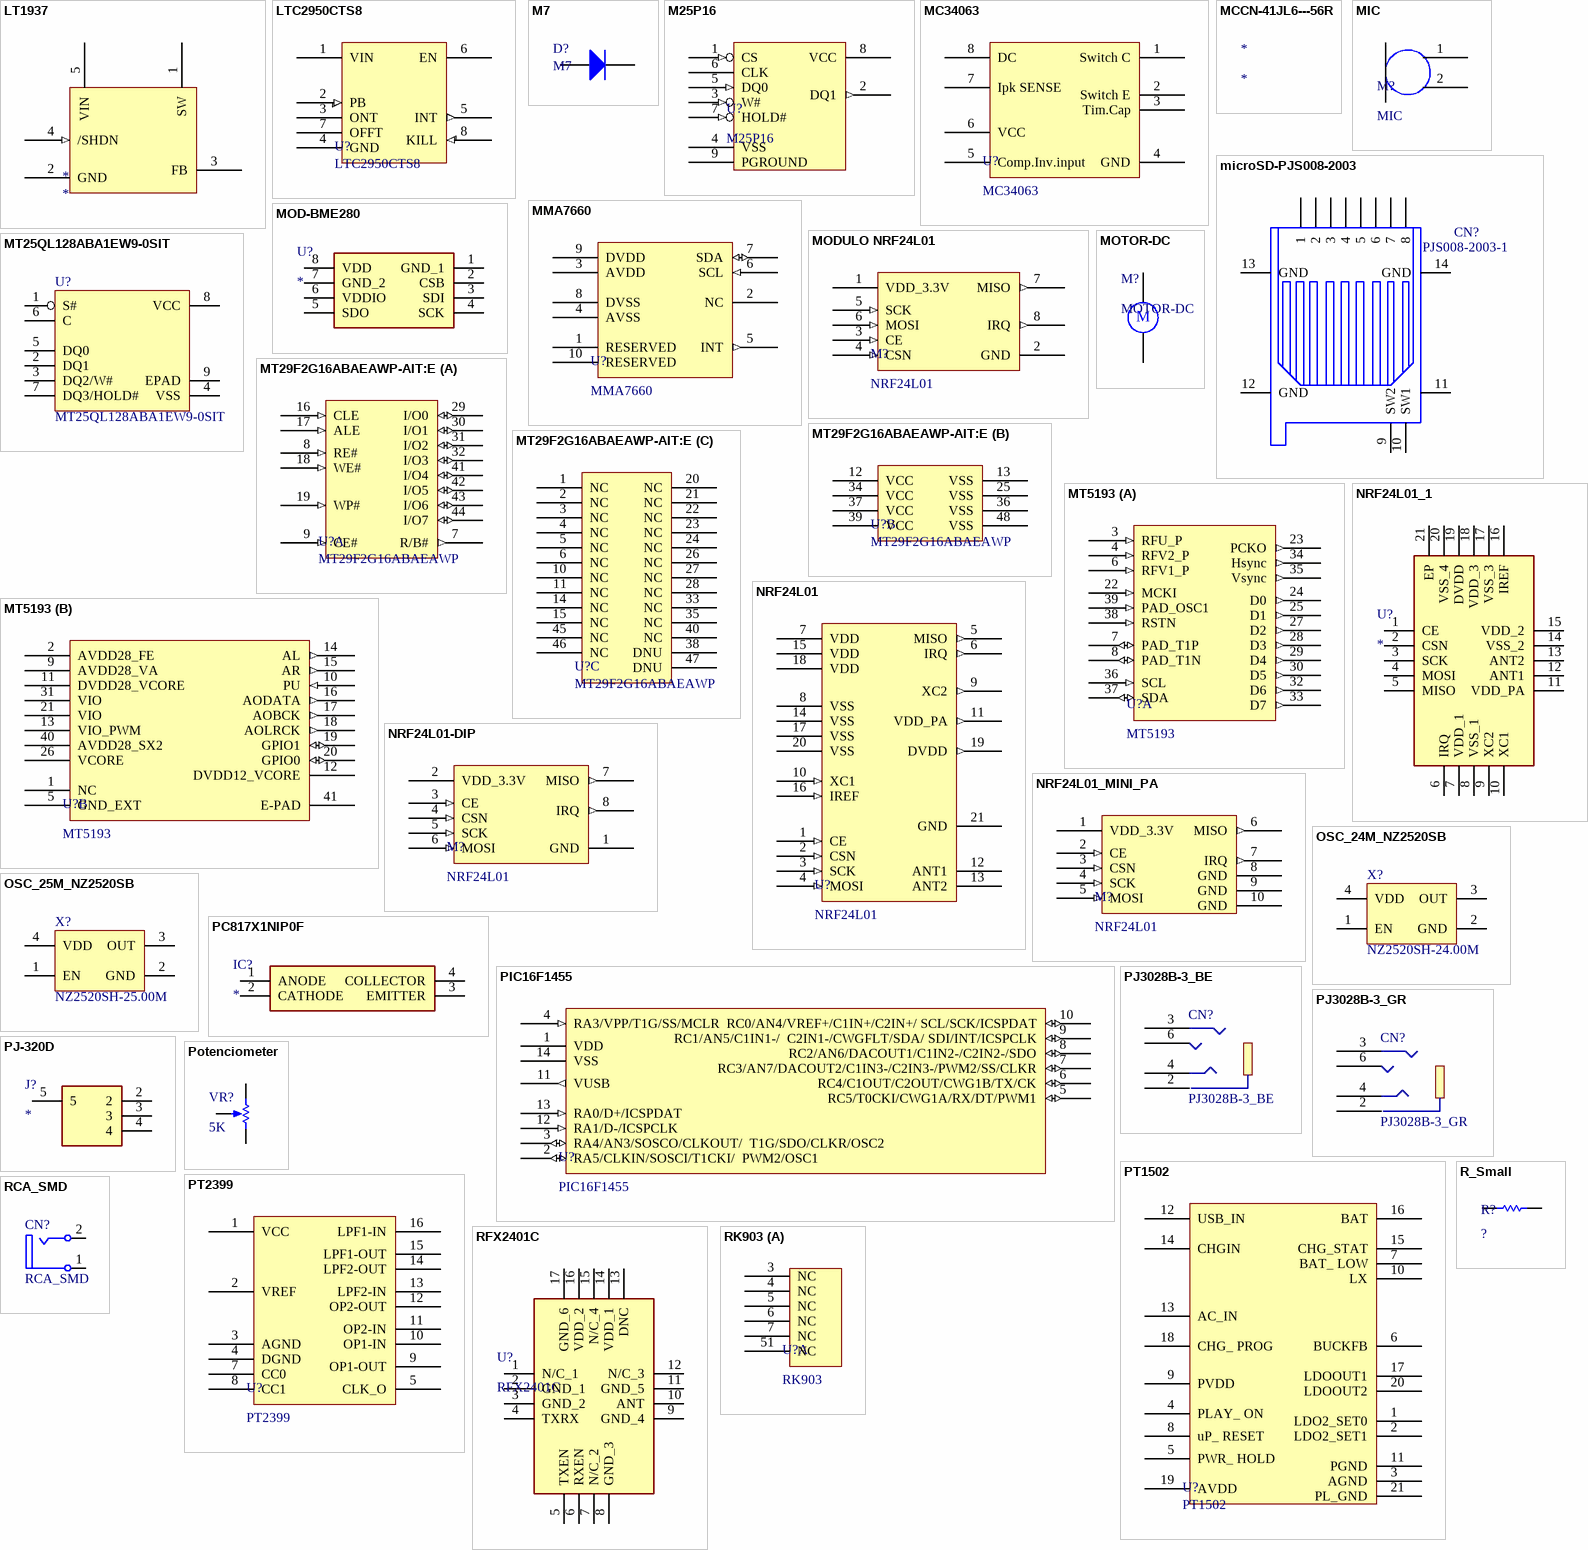
[diagram p3: symbols LT1937 to RK903]

## LT1937
designator *
footprint SOT23-5 (SOT-23/SC-74A; 5 Leads; Body 3 x 3 mm, inc. leads (LxW max))
pins: 1 SW, 2 GND, 3 FB, 4 /SHDN (in), 5 VIN

## LTC2950CTS8
designator U?
footprint SOT23-8
pins: 1 VIN, 2 PB (in), 3 ONT, 4 GND, 5 INT (out), 6 EN, 7 OFFT, 8 KILL (in)

## M7
designator D?
1A Rectifier Diodes
footprint DO-214AC(SMA)
pins: A, K

## M25P16
designator U?
16 Mbit, serial Flash memory, 75 MHz SPI bus interface
footprint VDFPN-8
pins: 1 CS (in), 2 DQ1 (out), 3 W# (in), 4 VSS, 5 DQ0 (in), 6 CLK (power), 7 HOLD# (in), 8 VCC, 9 PGROUND

## MC34063
designator U?
Step Up/Down Inverting Switching 1.5A Regulators
footprint SOIC - 8
pins: 1 Switch C, 2 Switch E, 3 Tim.Cap, 4 GND, 5 Comp.Inv.input, 6 VCC, 7 Ipk SENSE, 8 DC

## MCCN-41JL6---56R
designator *
MULTICOMP   MCCN-41JL6---56R   RESISTOR, ARRAY, 4 X 0201, 56R

## MIC
designator M?
Microfone Eletreto
footprint MIC
pins: 1, 2

## microSD-PJS008-2003
designator CN?, comment PJS008-2003-1
Memory Card Connectors MicroSD Card Conn Revrs Mnt Push-Push
footprint PJS008-2003-1
pins: 1, 2, 3, 4, 5, 6, 7, 8, 9 SW2, 10 SW1, 11 GND, 12 GND, 13 GND, 14 GND

## MMA7660
designator U?
3-Axis Orientation/Motion Detection Sensor
footprint DFN-10L
pins: 1 RESERVED, 2 NC, 3 AVDD, 4 AVSS, 5 INT (out), 6 SCL (in), 7 SDA (io), 8 DVSS, 9 DVDD (power), 10 RESERVED

## MOD-BME280
designator U?
Humidity, Pressure e temperature sensor
pins: 1 GND_1, 2 CSB, 3 SDI, 4 SCK, 5 SDO, 6 VDDIO, 7 GND_2, 8 VDD

## MODULO NRF24L01
designator M?, comment NRF24L01
footprint NRF24L01_1.27mm
footprint NRF24 27mmX12mm
footprint NRF24L01_MINI
pins: 1 VDD_3.3V, 2 GND (power), 3 CE (in), 4 CSN (in), 5 SCK (in), 6 MOSI (in), 7 MISO (out), 8 IRQ (out)

## MOTOR-DC
designator M?
MOTOR DC 3.3V
footprint MOTOR
pins: 1, 2
text: M

## MT25QL128ABA1EW9-0SIT
designator U?
128Mb, 3V, Multiple I/O Serial Flash Memory, Quad/Dual
footprint W-PDFN-8_8X6_P127
pins: 1 S#, 2 DQ1, 3 DQ2/W#, 4 VSS, 5 DQ0, 6 C, 7 DQ3/HOLD#, 8 VCC, 9 EPAD

## MT29F2G16ABAEAWP-AIT:E
designator U?, comment MT29F2G16ABAEAWP
footprint TSOP-48
part A pins: 7 R/B# (out), 8 RE# (in), 9 CE# (in), 16 CLE (in), 17 ALE (in), 18 WE# (in), 19 WP# (in), 29 I/O0 (io), 30 I/O1 (io), 31 I/O2 (io), 32 I/O3 (io), 41 I/O4 (io), 42 I/O5 (io), 43 I/O6 (io), 44 I/O7 (io)
part B pins: 12 VCC (power), 13 VSS (power), 25 VSS (power), 34 VCC (power), 36 VSS (power), 37 VCC (power), 39 VCC (power), 48 VSS (power)
part C pins: 1 NC, 2 NC, 3 NC, 4 NC, 5 NC, 6 NC, 10 NC, 11 NC, 14 NC, 15 NC, 20 NC, 21 NC, 22 NC, 23 NC, 24 NC, 26 NC, 27 NC, 28 NC, 33 NC, 35 NC, 38 DNU, 40 NC, 45 NC, 46 NC, 47 DNU

## MT5193
designator U?
Mobile Analogic TV Receiver SOC
footprint QFN5x5 40PIN
part A pins: 3 RFU_P (in), 4 RFV2_P (in), 6 RFV1_P (in), 7 PAD_T1P (io), 8 PAD_T1N (io), 22 MCKI (in), 23 PCKO (out), 24 D0 (out), 25 D1 (out), 27 D2 (out), 28 D3 (out), 29 D4 (out), 30 D5 (out), 32 D6 (out), 33 D7 (out), 34 Hsync (out), 35 Vsync (out), 36 SCL (in), 37 SDA (io), 38 RSTN (in), 39 PAD_OSC1 (in)
part B pins: 1 NC, 2 AVDD28_FE, 5 GND_EXT (power), 9 AVDD28_VA, 10 PU (in), 11 DVDD28_VCORE, 12 DVDD12_VCORE (power), 13 VIO_PWM, 14 AL (out), 15 AR (out), 16 AODATA (out), 17 AOBCK (out), 18 AOLRCK (out), 19 GPIO1 (io), 20 GPIO0 (io), 21 VIO (power), 26 VCORE (power), 31 VIO (power), 40 AVDD28_SX2 (power), 41 E-PAD (power)

## NRF24L01
designator U?
Wireless Transmiter 2.4GHz
footprint QFN20 4x4
pins: 1 CE (in), 2 CSN (in), 3 SCK (in), 4 MOSI (in), 5 MISO (out), 6 IRQ (out), 7 VDD, 8 VSS, 9 XC2 (out), 10 XC1 (in), 11 VDD_PA (out), 12 ANT1, 13 ANT2, 14 VSS, 15 VDD, 16 IREF (in), 17 VSS, 18 VDD, 19 DVDD (out), 20 VSS, 21 GND (power)

## NRF24L01-DIP
designator M?, comment NRF24L01
Wireless Module
footprint NRF24L01-40.8x15.3mm
pins: 1 GND, 2 VDD_3.3V (power), 3 CE (in), 4 CSN (in), 5 SCK (in), 6 MOSI (in), 7 MISO (out), 8 IRQ (out)

## NRF24L01_1
designator U?
Single Chip  2.4GHz Transceiver; Manufacturer_Name: Nordic Semiconductor; Manufacturer_Part_Number: NRF24L01; Datasheet Link: https://www.nordicsemi.com/chi/content/download/2730/34105/file/nRF24L01_Product_Specification_v2_0.pdf; Height: 0.95mm; Mouser Part Number: 949-NRF24L01; Mouser Price/Stock: https://www.mouser.co.uk/ProductDetail/Nordic-Semiconductor/nRF24L01?qs=yd0qOhnSiDdtPhpOyQGKeQ%3D%3D; Arrow Part Number: NRF24L01; Arrow Price/Stock: https://www.arrow.com/en/products/nrf24l01/nordic-semiconductor
footprint QFN50P400X400X95-21N-D
pins: 1 CE, 2 CSN, 3 SCK, 4 MOSI, 5 MISO, 6 IRQ, 7 VDD_1, 8 VSS_1, 9 XC2, 10 XC1, 11 VDD_PA, 12 ANT1, 13 ANT2, 14 VSS_2, 15 VDD_2, 16 IREF, 17 VSS_3, 18 VDD_3, 19 DVDD, 20 VSS_4, 21 EP

## NRF24L01_MINI_PA
designator M?, comment NRF24L01
Wireless Module
footprint NRF24L01_MINI
pins: 1 VDD_3.3V (power), 2 CE (in), 3 CSN (in), 4 SCK (in), 5 MOSI (in), 6 MISO (out), 7 IRQ (out), 8 GND, 9 GND, 10 GND

## OSC_24M_NZ2520SB
designator X?, comment NZ2520SH-24.00M
Oscillator 24.00Mhz, -+50PPM, 3.3V, Temp -55 to +125°C
footprint Model Name (Footprint not found)
footprint NZ2520SH_4P
pins: 1 EN, 2 GND, 3 OUT, 4 VDD

## OSC_25M_NZ2520SB
designator X?, comment NZ2520SH-25.00M
Oscillator 25.00Mhz, -+50PPM, 3.3V, Temp -55 to +125°C
footprint Model Name (Footprint not found)
footprint NZ2520SH_4P
pins: 1 EN, 2 GND, 3 OUT, 4 VDD

## PC817X1NIP0F
designator IC?
Integrated Circuit
footprint SOP254P975X400-4N
pins: 1 ANODE, 2 CATHODE, 3 EMITTER, 4 COLLECTOR

## PIC16F1455
designator U?
8-Bit Flash USB Microcontroller with  XLP Technology
footprint SOIC14
pins: 1 VDD (power), 2 RA5/CLKIN/SOSCI/T1CKI/  PWM2/OSC1 (io), 3 RA4/AN3/SOSCO/CLKOUT/  T1G/SDO/CLKR/OSC2 (io), 4 RA3/VPP/T1G/SS/MCLR (in), 5 RC5/T0CKI/CWG1A/RX/DT/PWM1 (io), 6 RC4/C1OUT/C2OUT/CWG1B/TX/CK (io), 7 RC3/AN7/DACOUT2/C1IN3-/C2IN3-/PWM2/SS/CLKR (io), 8 RC2/AN6/DACOUT1/C1IN2-/C2IN2-/SDO (io), 9 RC1/AN5/C1IN1-/  C2IN1-/CWGFLT/SDA/ SDI/INT/ICSPCLK (io), 10 RC0/AN4/VREF+/C1IN+/C2IN+/ SCL/SCK/ICSPDAT (io), 11 VUSB (out), 12 RA1/D-/ICSPCLK (in), 13 RA0/D+/ICSPDAT (in), 14 VSS (power)

## PJ3028B-3_BE
designator CN?
Connector Jack Stereo 3.5mm, female SMT, Blue (Line input)
footprint PJ3028B (Footprint not found)
pins: 2, 3, 4, 6

## PJ3028B-3_GR
designator CN?
Connector Jack Stereo 3.5mm, female SMT, Green (Line output)
footprint PJ3028B (Footprint not found)
pins: 2, 3, 4, 6

## PJ-320D
designator J?
Connector
footprint PJ320D
pins: 2, 3, 4, 5

## Potenciometer
designator VR?, comment 5K
footprint RV
pins: 1 TOP, 2 TAP, 3 BOT

## PT1502
designator U?
footprint QFN50P400X400-20V1L (QFN, 20-Leads, Body 4x4mm, Pitch 0.5mm, IPC High Density)
pins: 1 LDO2_SET0, 2 LDO2_SET1, 3 AGND, 4 PLAY_ ON, 5 PWR_ HOLD, 6 BUCKFB, 7 BAT_ LOW, 8 uP_ RESET, 9 PVDD, 10 LX, 11 PGND, 12 USB_IN, 13 AC_IN, 14 CHGIN, 15 CHG_STAT, 16 BAT, 17 LDOOUT1, 18 CHG_ PROG, 19 AVDD, 20 LDOOUT2, 21 PL_GND

## PT2399
designator U?
The PT2399 is a single chip echo processor IC utilizing / CMOS technology
footprint DIP-16 (DIP, 16-Pin, Row Spacing 7.62 mm, Pitch 2.54 mm)
pins: 1 VCC, 2 VREF, 3 AGND, 4 DGND, 5 CLK_O, 7 CC0, 8 CC1, 9 OP1-OUT, 10 OP1-IN, 11 OP2-IN, 12 OP2-OUT, 13 LPF2-IN, 14 LPF2-OUT, 15 LPF1-OUT, 16 LPF1-IN

## R_Small
designator R?, comment ?
footprint 0603R
pins: 1, 2

## RCA_SMD
designator CN?
RCA Phono Jack, Right Angle, SMD, Yellow
signal-integrity model RCA
footprint RCA_SMD
pins: 1 Ground "Outer Shield (Sleeve)", 2 Signal "Center Pin (Plug Tip)"

## RFX2401C
designator U?
The RFX2401C is a fully integrated, single-chip, single-die RFeIC (RF Front-end / Integrated Circuit); Manufacturer_Name: Skyworks; Datasheet Link: https://eu.mouser.com/datasheet/2/472/RFX2401C_204359B-1524606.pdf; Height: 0.6mm; Manufacturer_Part_Number: RFX2401C; Mouser Part Number: 477-RFX2401C; Mouser Price/Stock: https://www.mouser.co.uk/ProductDetail/Skyworks-Solutions-Inc/RFX2401C?qs=dBWc1juS%252B3ydEXrKsuxQ7A%3D%3D
footprint QFN50P300X300X60-17N-D
pins: 1 N/C_1, 2 GND_1, 3 GND_2, 4 TXRX, 5 TXEN, 6 RXEN, 7 N/C_2, 8 GND_3, 9 GND_4, 10 ANT, 11 GND_5, 12 N/C_3, 13 DNC, 14 VDD_1, 15 N/C_4, 16 VDD_2, 17 GND_6

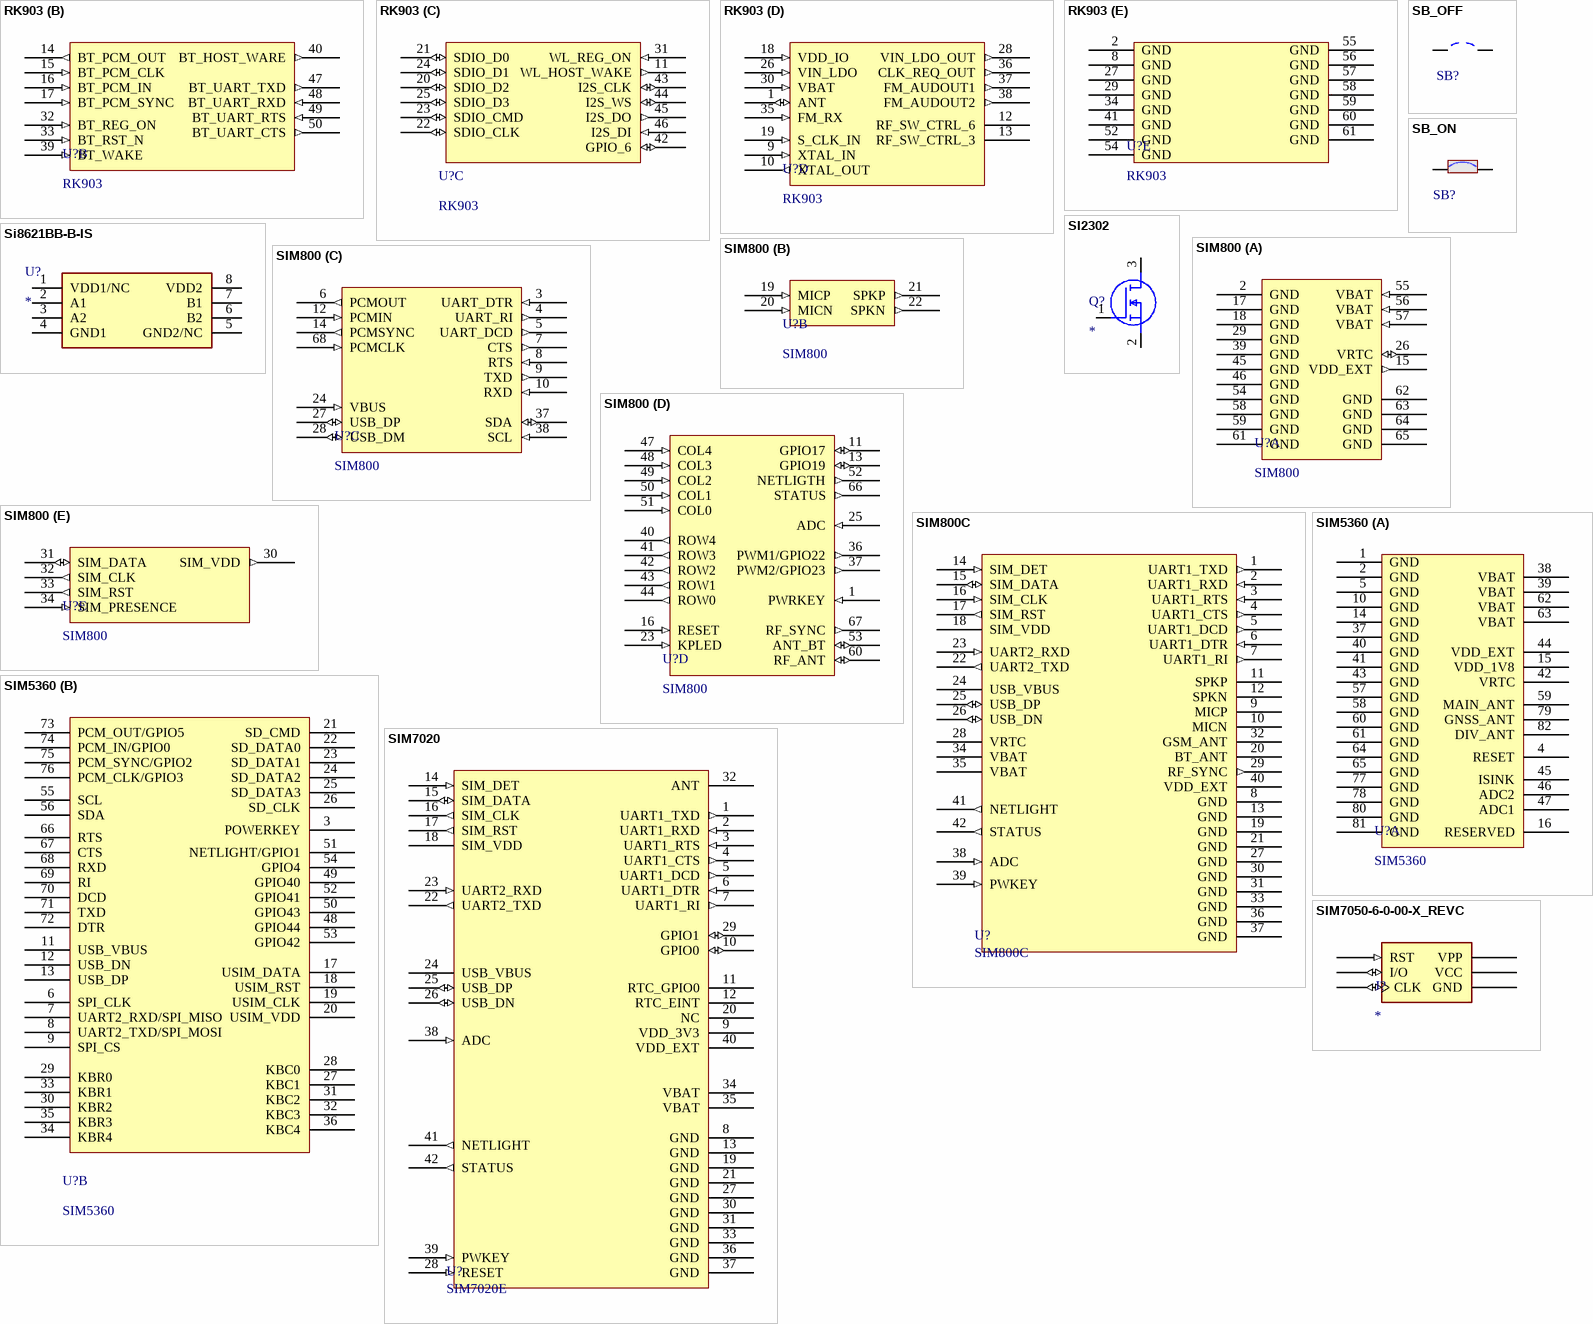
[diagram p4: symbols RK903 to SIM7050-6-0-00-X_REVC]

## RK903
designator U?
Module Wifi/Bt/FM
part A pins: 3 NC, 4 NC, 5 NC, 6 NC, 7 NC, 51 NC
part B pins: 14 BT_PCM_OUT (out), 15 BT_PCM_CLK (in), 16 BT_PCM_IN (in), 17 BT_PCM_SYNC (in), 32 BT_REG_ON (in), 33 BT_RST_N (in), 39 BT_WAKE (in), 40 BT_HOST_WARE (out), 47 BT_UART_TXD (out), 48 BT_UART_RXD (in), 49 BT_UART_RTS (in), 50 BT_UART_CTS (out)
part C pins: 11 WL_HOST_WAKE (out), 20 SDIO_D2 (io), 21 SDIO_D0 (io), 22 SDIO_CLK (io), 23 SDIO_CMD (io), 24 SDIO_D1 (io), 25 SDIO_D3 (io), 31 WL_REG_ON (in), 42 GPIO_6 (io), 43 I2S_CLK (io), 44 I2S_WS (io), 45 I2S_DO (out), 46 I2S_DI (in)
part D pins: 1 ANT (io), 9 XTAL_IN (in), 10 XTAL_OUT (out), 12 RF_SW_CTRL_6, 13 RF_SW_CTRL_3, 18 VDD_IO (in), 19 S_CLK_IN (in), 26 VIN_LDO (in), 28 VIN_LDO_OUT (out), 30 VBAT (in), 35 FM_RX (in), 36 CLK_REQ_OUT (out), 37 FM_AUDOUT1 (out), 38 FM_AUDOUT2 (out)
part E pins: 2 GND, 8 GND, 27 GND, 29 GND, 34 GND, 41 GND, 52 GND, 54 GND, 55 GND, 56 GND, 57 GND, 58 GND, 59 GND, 60 GND, 61 GND

## SB_OFF
designator SB?, comment Solder Bridge OFF  (value not drawn)
Revision: July-2002: Re-released for DXP Platform.
footprint SPST-2 (Circuit Breaker; 2 Leads)
footprint JP2_SMD
pins: 1, 2

## SB_ON
designator SB?, comment Solder Bridge ON  (value not drawn)
Revision: July-2002: Re-released for DXP Platform.
footprint SPST-2 (Circuit Breaker; 2 Leads)
footprint JP2_SMD
pins: 1, 2

## SI2302
designator Q?
MOSFET (N-Channel); Manufacturer_Name: Micro Commercial Components (MCC); Manufacturer_Part_Number: SI2302; Datasheet Link: https://mouser.componentsearchengine.com/Datasheets/1/SI2302.pdf; Height: 1.005mm; Mouser Part Number: 833-SI2302; Mouser Price/Stock: https://www.mouser.co.uk/ProductDetail/Micro-Commercial-Components-MCC/SI2302?qs=6W4OQKoqJ0s%2FjuQxID9btg%3D%3D
footprint SI2302
pins: 1 G, 2 S, 3 D

## Si8621BB-B-IS
designator U?
Ultra-low-power digital isolators
footprint SOIC127P600X175-8N
pins: 1 VDD1/NC, 2 A1, 3 A2, 4 GND1, 5 GND2/NC, 6 B2, 7 B1, 8 VDD2

## SIM800
designator U?
Modulo GSM GPRS
part A pins: 2 GND, 15 VDD_EXT (out), 17 GND, 18 GND, 26 VRTC (io), 29 GND, 39 GND, 45 GND, 46 GND, 54 GND, 55 VBAT (in), 56 VBAT (in), 57 VBAT (in), 58 GND, 59 GND, 61 GND, 62 GND, 63 GND, 64 GND, 65 GND
part B pins: 19 MICP (in), 20 MICN (in), 21 SPKP (out), 22 SPKN (out)
part C pins: 3 UART_DTR (in), 4 UART_RI (out), 5 UART_DCD (out), 6 PCMOUT (out), 7 CTS (out), 8 RTS (in), 9 TXD (out), 10 RXD (in), 12 PCMIN (in), 14 PCMSYNC (out), 24 VBUS (in), 27 USB_DP (io), 28 USB_DM (io), 37 SDA (io), 38 SCL (in), 68 PCMCLK (in)
part D pins: 1 PWRKEY (in), 11 GPIO17 (io), 13 GPIO19 (io), 16 RESET (in), 23 KPLED (in), 25 ADC (in), 36 PWM1/GPIO22 (out), 37 PWM2/GPIO23 (out), 40 ROW4 (out), 41 ROW3 (out), 42 ROW2 (out), 43 ROW1 (out), 44 ROW0 (out), 47 COL4 (in), 48 COL3 (in), 49 COL2 (in), 50 COL1 (in), 51 COL0 (in), 52 NETLIGTH (out), 53 ANT_BT (io), 60 RF_ANT (io), 66 STATUS (out), 67 RF_SYNC (out)
part E pins: 30 SIM_VDD (out), 31 SIM_DATA (io), 32 SIM_CLK (out), 33 SIM_RST (out), 34 SIM_PRESENCE (in)

## SIM800C
designator U?
SIM800C is a quad-band GSM/GPRS module that works on frequencies GSM850MHz, EGSM900MHz, / DCS1800MHz and PCS1900MHz
footprint SIM800C
pins: 1 UART1_TXD (out), 2 UART1_RXD (in), 3 UART1_RTS (in), 4 UART1_CTS (out), 5 UART1_DCD (out), 6 UART1_DTR (in), 7 UART1_RI (out), 8 GND (power), 9 MICP, 10 MICN, 11 SPKP, 12 SPKN, 13 GND (power), 14 SIM_DET (in), 15 SIM_DATA (io), 16 SIM_CLK (in), 17 SIM_RST (out), 18 SIM_VDD (power), 19 GND (power), 20 BT_ANT, 21 GND (power), 22 UART2_TXD (out), 23 UART2_RXD (in), 24 USB_VBUS, 25 USB_DP (io), 26 USB_DN (io), 27 GND (power), 28 VRTC, 29 RF_SYNC (out), 30 GND (power), 31 GND (power), 32 GSM_ANT, 33 GND (power), 34 VBAT (power), 35 VBAT (power), 36 GND (power), 37 GND (power), 38 ADC (in), 39 PWKEY (in), 40 VDD_EXT (power), 41 NETLIGHT (out), 42 STATUS (out)

## SIM5360
designator U?
quad-band GSM/GPRS/EDGE and dual-band UMTS /HSPA+
footprint LCC82
part A pins: 1 GND, 2 GND, 4 RESET, 5 GND, 10 GND, 14 GND, 15 VDD_1V8, 16 RESERVED, 37 GND, 38 VBAT, 39 VBAT, 40 GND, 41 GND, 42 VRTC, 43 GND, 44 VDD_EXT, 45 ISINK, 46 ADC2, 47 ADC1, 57 GND, 58 GND, 59 MAIN_ANT, 60 GND, 61 GND, 62 VBAT, 63 VBAT, 64 GND, 65 GND, 77 GND, 78 GND, 79 GNSS_ANT, 80 GND, 81 GND, 82 DIV_ANT
part B pins: 3 POWERKEY, 6 SPI_CLK, 7 UART2_RXD/SPI_MISO , 8 UART2_TXD/SPI_MOSI , 9 SPI_CS, 11 USB_VBUS, 12 USB_DN, 13 USB_DP, 17 USIM_DATA, 18 USIM_RST, 19 USIM_CLK, 20 USIM_VDD, 21 SD_CMD, 22 SD_DATA0, 23 SD_DATA1, 24 SD_DATA2, 25 SD_DATA3, 26 SD_CLK, 27 KBC1, 28 KBC0, 29 KBR0, 30 KBR2, 31 KBC2, 32 KBC3, 33 KBR1, 34 KBR4, 35 KBR3, 36 KBC4, 48 GPIO44, 49 GPIO40, 50 GPIO43, 51 NETLIGHT/GPIO1, 52 GPIO41, 53 GPIO42, 54 GPIO4, 55 SCL, 56 SDA, 66 RTS, 67 CTS, 68 RXD, 69 RI, 70 DCD, 71 TXD, 72 DTR, 73 PCM_OUT/GPIO5 , 74 PCM_IN/GPIO0, 75 PCM_SYNC/GPIO2, 76 PCM_CLK/GPIO3

## SIM7020
designator U?, comment SIM7020E
The SIM7020 is Multi-Band NB-IoT module solution in a SMT type . It has strong extension capability with rich interfaces including UART, GPIO etc. The module provides much flexibility and ease of integration for customer's application. The package of SIM7020 is compatible with SIM800C. This also minimizes the investments of customers, and enables a short time-to-market.
footprint LCC42 -SIMCOM
pins: 1 UART1_TXD (out), 2 UART1_RXD (in), 3 UART1_RTS (in), 4 UART1_CTS (out), 5 UART1_DCD (out), 6 UART1_DTR (in), 7 UART1_RI (out), 8 GND (power), 9 VDD_3V3, 10 GPIO0 (io), 11 RTC_GPIO0, 12 RTC_EINT, 13 GND (power), 14 SIM_DET (in), 15 SIM_DATA (io), 16 SIM_CLK (out), 17 SIM_RST (out), 18 SIM_VDD (power), 19 GND (power), 20 NC, 21 GND (power), 22 UART2_TXD (out), 23 UART2_RXD (in), 24 USB_VBUS, 25 USB_DP (io), 26 USB_DN (io), 27 GND (power), 28 RESET (in), 29 GPIO1 (io), 30 GND (power), 31 GND (power), 32 ANT, 33 GND (power), 34 VBAT (power), 35 VBAT (power), 36 GND (power), 37 GND (power), 38 ADC (in), 39 PWKEY (in), 40 VDD_EXT (power), 41 NETLIGHT (out), 42 STATUS (out)

## SIM7050-6-0-00-X_REVC
designator J?
6 Position Card Connector Micro SIM Surface Mount, Right Angle Gold; MF: Global Connector Technology; MP: SIM7050-6-0-00-A; Value: *; SnapEDA_Link: https://www.snapeda.com/parts/SIM7050-6-0-00-A/Global%20Connector%20Technology/view-part/270345/?ref=snap; Availability: Unavailable; Price: None; Package: None
footprint GCT_SIM7050-6-0-00-X_REVC
pins: C1 VCC (power), C2 RST (in), C3 CLK (io), C5 GND (power), C6 VPP (power), C7 I/O (io)

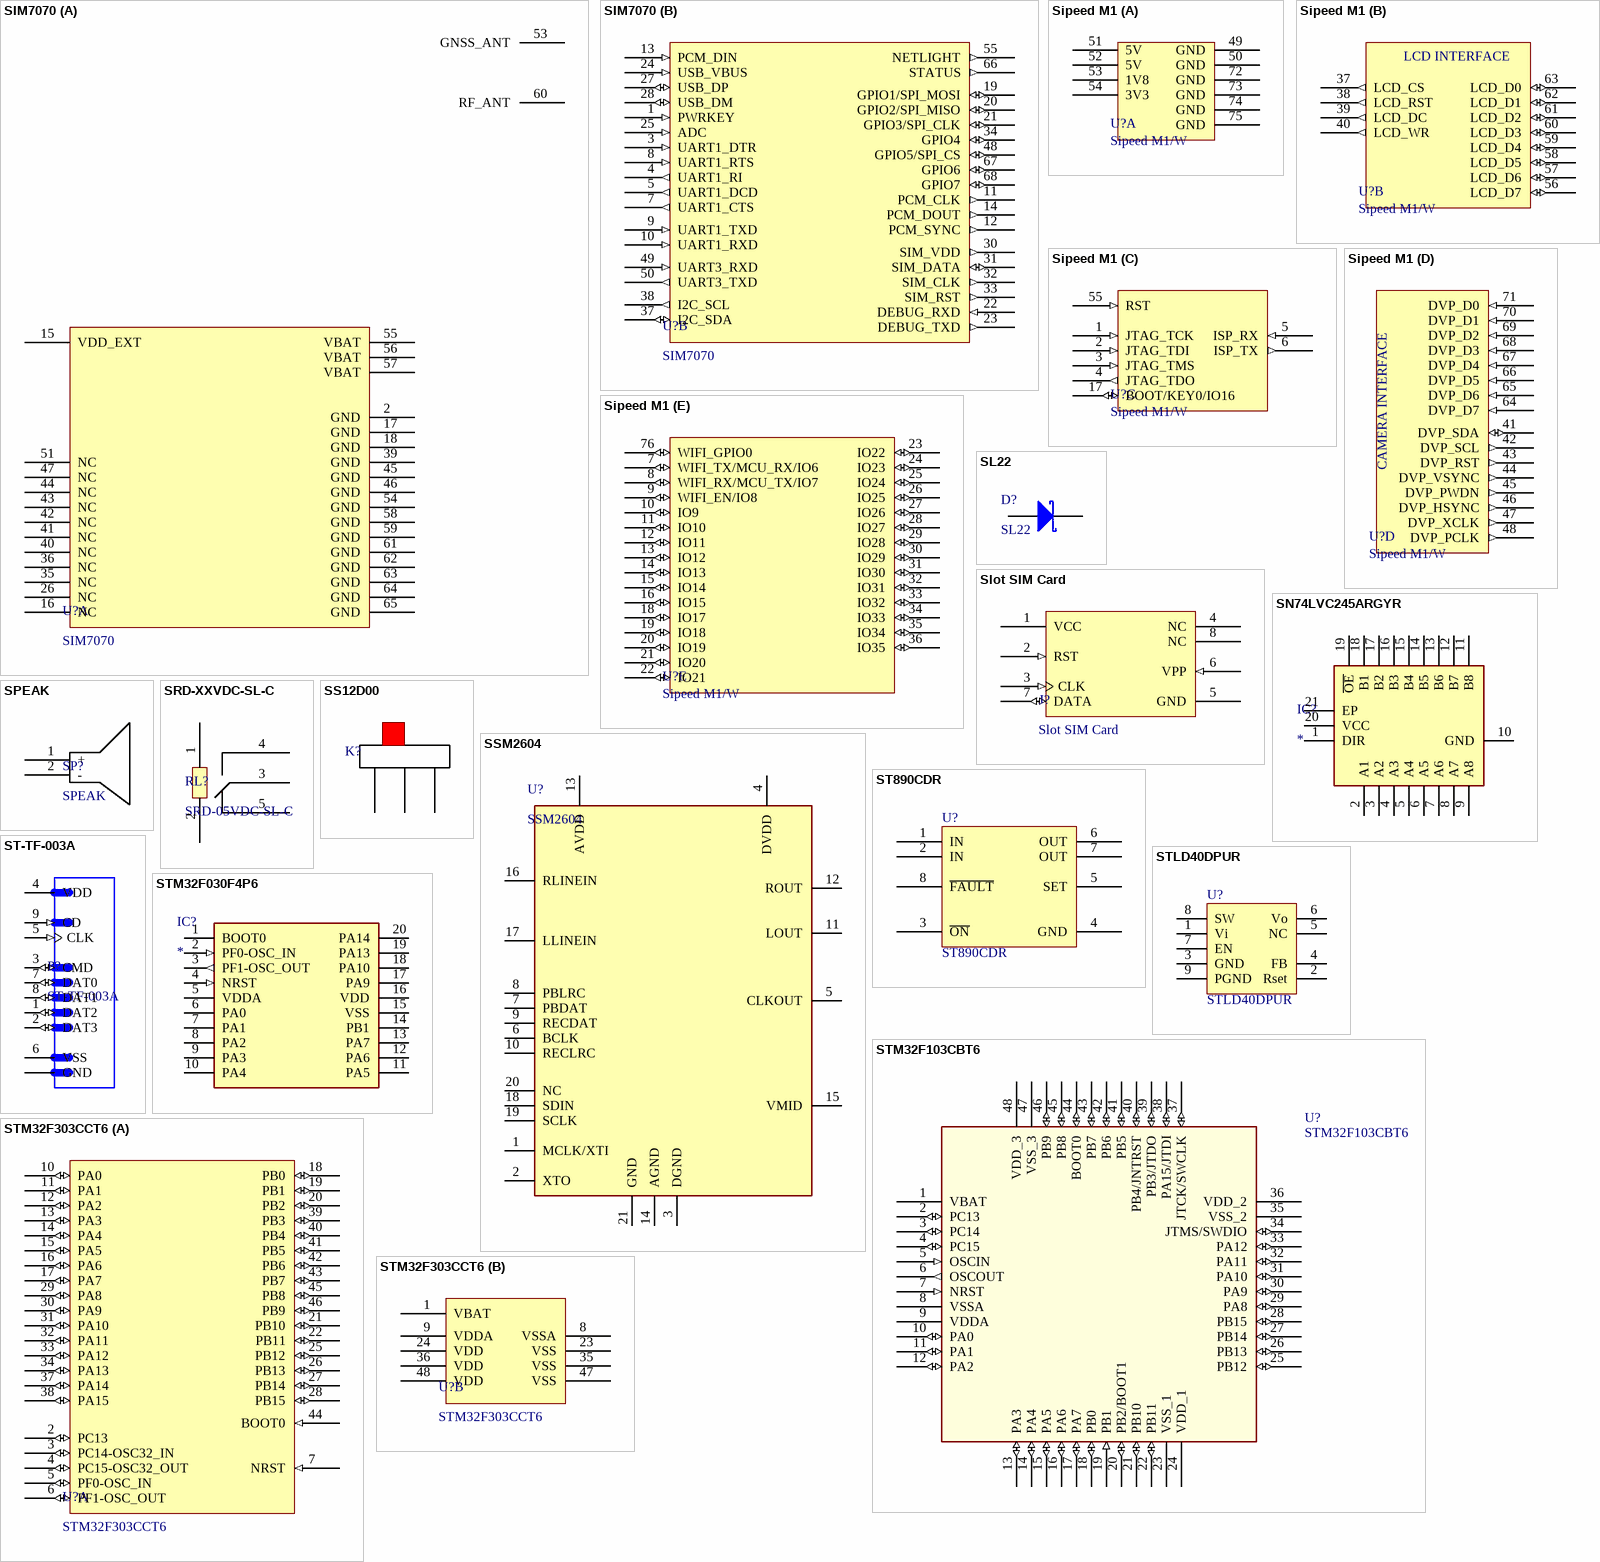
[diagram p5: symbols SIM7070 to STM32F303CCT6]

## SIM7070
designator U?
The SIM7070 Series modules support LTE CAT-M1, LTE CAT-NB1/CAT-NB2, GSM, GPRS and EDGE
footprint LCC68
part A pins: 2 GND, 15 VDD_EXT, 16 NC, 17 GND, 18 GND, 26 NC, 35 NC, 36 NC, 39 GND, 40 NC, 41 NC, 42 NC, 43 NC, 44 NC, 45 GND, 46 GND, 47 NC, 51 NC, 53 GNSS_ANT, 54 GND, 55 VBAT, 56 VBAT, 57 VBAT, 58 GND, 59 GND, 60 RF_ANT, 61 GND, 62 GND, 63 GND, 64 GND, 65 GND
part B pins: 1 PWRKEY (in), 3 UART1_DTR (in), 4 UART1_RI (out), 5 UART1_DCD (out), 7 UART1_CTS (out), 8 UART1_RTS (in), 9 UART1_TXD (in), 10 UART1_RXD (in), 11 PCM_CLK (out), 12 PCM_SYNC (out), 13 PCM_DIN (in), 14 PCM_DOUT (out), 19 GPIO1/SPI_MOSI (io), 20 GPIO2/SPI_MISO (io), 21 GPIO3/SPI_CLK (io), 22 DEBUG_RXD (in), 23 DEBUG_TXD (out), 24 USB_VBUS (in), 25 ADC (in), 27 USB_DP (io), 28 USB_DM (io), 30 SIM_VDD (out), 31 SIM_DATA (io), 32 SIM_CLK (out), 33 SIM_RST (out), 34 GPIO4 (io), 37 I2C_SDA (io), 38 I2C_SCL (out), 48 GPIO5/SPI_CS (io), 49 UART3_RXD (in), 50 UART3_TXD (out), 55 NETLIGHT (out), 66 STATUS (out), 67 GPIO6 (io), 68 GPIO7 (io)

## Sipeed M1
designator U?, comment Sipeed M1/W
sing Kendryte's AI chip K210 as the core unit, K210 is fully pin-out, with strong performance, small size (25.4*25.4mm), low price (<$8), improve hardware design efficiency, reduce hardware design difficulty, and increase the anti-interference ability with shielded case
footprint sipeed72
part A pins: 49 GND, 50 GND, 51 5V, 52 5V, 53 1V8, 54 3V3, 72 GND, 73 GND, 74 GND, 75 GND
part B pins: 37 LCD_CS (out), 38 LCD_RST (out), 39 LCD_DC (out), 40 LCD_WR (out), 56 LCD_D7 (io), 57 LCD_D6 (io), 58 LCD_D5 (io), 59 LCD_D4 (io), 60 LCD_D3 (io), 61 LCD_D2 (io), 62 LCD_D1 (io), 63 LCD_D0 (io)
part C pins: 1 JTAG_TCK (in), 2 JTAG_TDI (in), 3 JTAG_TMS (in), 4 JTAG_TDO (out), 5 ISP_RX (in), 6 ISP_TX (out), 17 BOOT/KEY0/IO16 (io), 55 RST (in)
part D pins: 41 DVP_SDA (io), 42 DVP_SCL (out), 43 DVP_RST (out), 44 DVP_VSYNC (out), 45 DVP_PWDN (out), 46 DVP_HSYNC (out), 47 DVP_XCLK (out), 48 DVP_PCLK (out), 64 DVP_D7 (in), 65 DVP_D6 (in), 66 DVP_D5 (in), 67 DVP_D4 (in), 68 DVP_D3 (in), 69 DVP_D2 (in), 70 DVP_D1 (in), 71 DVP_D0 (in)
part E pins: 7 WIFI_TX/MCU_RX/IO6 (io), 8 WIFI_RX/MCU_TX/IO7 (io), 9 WIFI_EN/IO8 (io), 10 IO9 (io), 11 IO10 (io), 12 IO11 (io), 13 IO12 (io), 14 IO13 (io), 15 IO14 (io), 16 IO15 (io), 18 IO17 (io), 19 IO18 (io), 20 IO19 (io), 21 IO20 (io), 22 IO21 (io), 23 IO22 (io), 24 IO23 (io), 25 IO24 (io), 26 IO25 (io), 27 IO26 (io), 28 IO27 (io), 29 IO28 (io), 30 IO29 (io), 31 IO30 (io), 32 IO31 (io), 33 IO32 (io), 34 IO33 (io), 35 IO34 (io), 36 IO35 (io), 76 WIFI_GPIO0 (io)
part B text: LCD INTERFACE
part D text: CAMERA INTERFACE

## SL22
designator D?
Surface Mount Schottky Barrier Rectifier
footprint DO-214AC
pins: 1 A, 2 K

## Slot SIM Card
designator J?
Slor SIM CARD GSM/GPRS
pins: 1 VCC, 2 RST (in), 3 CLK (in), 4 NC, 5 GND, 6 VPP (in), 7 DATA (io), 8 NC

## SN74LVC245ARGYR
designator IC?
Integrated Circuit
footprint SN74LVC541ARGYR
pins: 1 DIR, 2 A1, 3 A2, 4 A3, 5 A4, 6 A5, 7 A6, 8 A7, 9 A8, 10 GND, 11 B8, 12 B7, 13 B6, 14 B5, 15 B4, 16 B3, 17 B2, 18 B1, 19 ~{OE}, 20 VCC, 21 EP

## SPEAK
designator SP?
Audio out Speak 8R
footprint SPEAKER
pins: 1 +, 2 -

## SRD-XXVDC-SL-C
designator RL?, comment SRD-05VDC-SL-C
RELÉ
footprint SRD
pins: 1 A1, 2 A2, 3 NC, 4 NC, 5 NF

## SS12D00
designator K?  (value not drawn)
footprint 2PDT
pins: 1 O1, 2 IN, 3 O2

## SSM2604
designator U?
Low Power Audio Codec
footprint QFN50P400X400X80-21N-D
pins: 1 MCLK/XTI, 2 XTO, 3 DGND, 4 DVDD, 5 CLKOUT, 6 BCLK, 7 PBDAT, 8 PBLRC, 9 RECDAT, 10 RECLRC, 11 LOUT, 12 ROUT, 13 AVDD, 14 AGND, 15 VMID, 16 RLINEIN, 17 LLINEIN, 18 SDIN, 19 SCLK, 20 NC, 21 GND

## ST890CDR
designator U?
1.2 A current limited high-side power switch with thermal shutdown; Footprint: SO-8
footprint SO-8
footprint SOIC8_1R27_4R9X6 (Footprint not found)
pins: 1 IN, 2 IN, 3 ~{ON}, 4 GND, 5 SET, 6 OUT, 7 OUT, 8 ~{FAULT}
2 alternate drawings of the same symbol

## ST-TF-003A
designator P?
Micro SD Card Socket
footprint SUNTECH_ST-TF-003A
pins: 1 DAT2 (io), 2 DAT3 (io), 3 CMD (io), 4 VDD (power), 5 CLK (in), 6 VSS, 7 DAT0 (io), 8 DAT1 (io), 9 CD (in), G1 GND, G2 GND, G3 GND, G4 GND

## STLD40DPUR
designator U?
White LED power supply for large display backlight, QFN8
footprint QFN8_0R65_3X3_ST (Footprint not found)
pins: 1 Vi, 2 Rset, 3 GND, 4 FB, 5 NC, 6 Vo, 7 EN, 8 SW, 9 PGND

## STM32F030F4P6
designator IC?
Integrated Circuit
footprint SOP65P640X120-20N
pins: 1 BOOT0, 2 PF0-OSC_IN (in), 3 PF1-OSC_OUT (out), 4 NRST (in), 5 VDDA (power), 6 PA0, 7 PA1, 8 PA2, 9 PA3, 10 PA4, 11 PA5, 12 PA6, 13 PA7, 14 PB1, 15 VSS (power), 16 VDD (power), 17 PA9, 18 PA10, 19 PA13, 20 PA14

## STM32F103CBT6
designator U?
Medium-density performance line ARM-based 32-bit MCU with 128KB Flash; Footprint: QFP48 7X7
footprint QFP48 7x7
pins: 1 VBAT (power), 2 PC13 (io), 3 PC14 (io), 4 PC15 (io), 5 OSCIN (in), 6 OSCOUT (out), 7 NRST (in), 8 VSSA (power), 9 VDDA (power), 10 PA0 (io), 11 PA1 (io), 12 PA2 (io), 13 PA3 (io), 14 PA4 (io), 15 PA5 (io), 16 PA6 (io), 17 PA7 (io), 18 PB0 (io), 19 PB1 (in), 20 PB2/BOOT1 (io), 21 PB10 (io), 22 PB11 (io), 23 VSS_1 (power), 24 VDD_1 (power), 25 PB12 (io), 26 PB13 (io), 27 PB14 (io), 28 PB15 (io), 29 PA8 (io), 30 PA9 (io), 31 PA10 (io), 32 PA11 (io), 33 PA12 (io), 34 JTMS/SWDIO (io), 35 VSS_2 (power), 36 VDD_2 (power), 37 JTCK/SWCLK (io), 38 PA15/JTDI (io), 39 PB3/JTDO (io), 40 PB4/JNTRST (io), 41 PB5 (io), 42 PB6 (io), 43 PB7 (io), 44 BOOT0 (io), 45 PB8 (io), 46 PB9 (io), 47 VSS_3 (power), 48 VDD_3 (power)

## STM32F303CCT6
designator U?
Arm®-based Cortex®-M4 32b MCU+FPU, up to 256KB Flash+ / 48KB SRAM, 4 ADCs, 2 DAC ch., 7 comp, 4 PGA, timers, 2.0-3.6 V
footprint QFP50P900X900X160-48N
part A pins: 2 PC13 (io), 3 PC14-OSC32_IN (io), 4 PC15-OSC32_OUT (io), 5 PF0-OSC_IN (io), 6 PF1-OSC_OUT (io), 7 NRST (in), 10 PA0 (io), 11 PA1 (io), 12 PA2 (io), 13 PA3 (io), 14 PA4 (io), 15 PA5 (io), 16 PA6 (io), 17 PA7 (io), 18 PB0 (io), 19 PB1 (io), 20 PB2 (io), 21 PB10 (io), 22 PB11 (io), 25 PB12 (io), 26 PB13 (io), 27 PB14 (io), 28 PB15 (io), 29 PA8 (io), 30 PA9 (io), 31 PA10 (io), 32 PA11 (io), 33 PA12 (io), 34 PA13 (io), 37 PA14 (io), 38 PA15 (io), 39 PB3 (io), 40 PB4 (io), 41 PB5 (io), 42 PB6 (io), 43 PB7 (io), 44 BOOT0 (in), 45 PB8 (io), 46 PB9 (io)
part B pins: 1 VBAT, 8 VSSA (power), 9 VDDA (power), 23 VSS (power), 24 VDD (power), 35 VSS (power), 36 VDD (power), 47 VSS (power), 48 VDD (power)

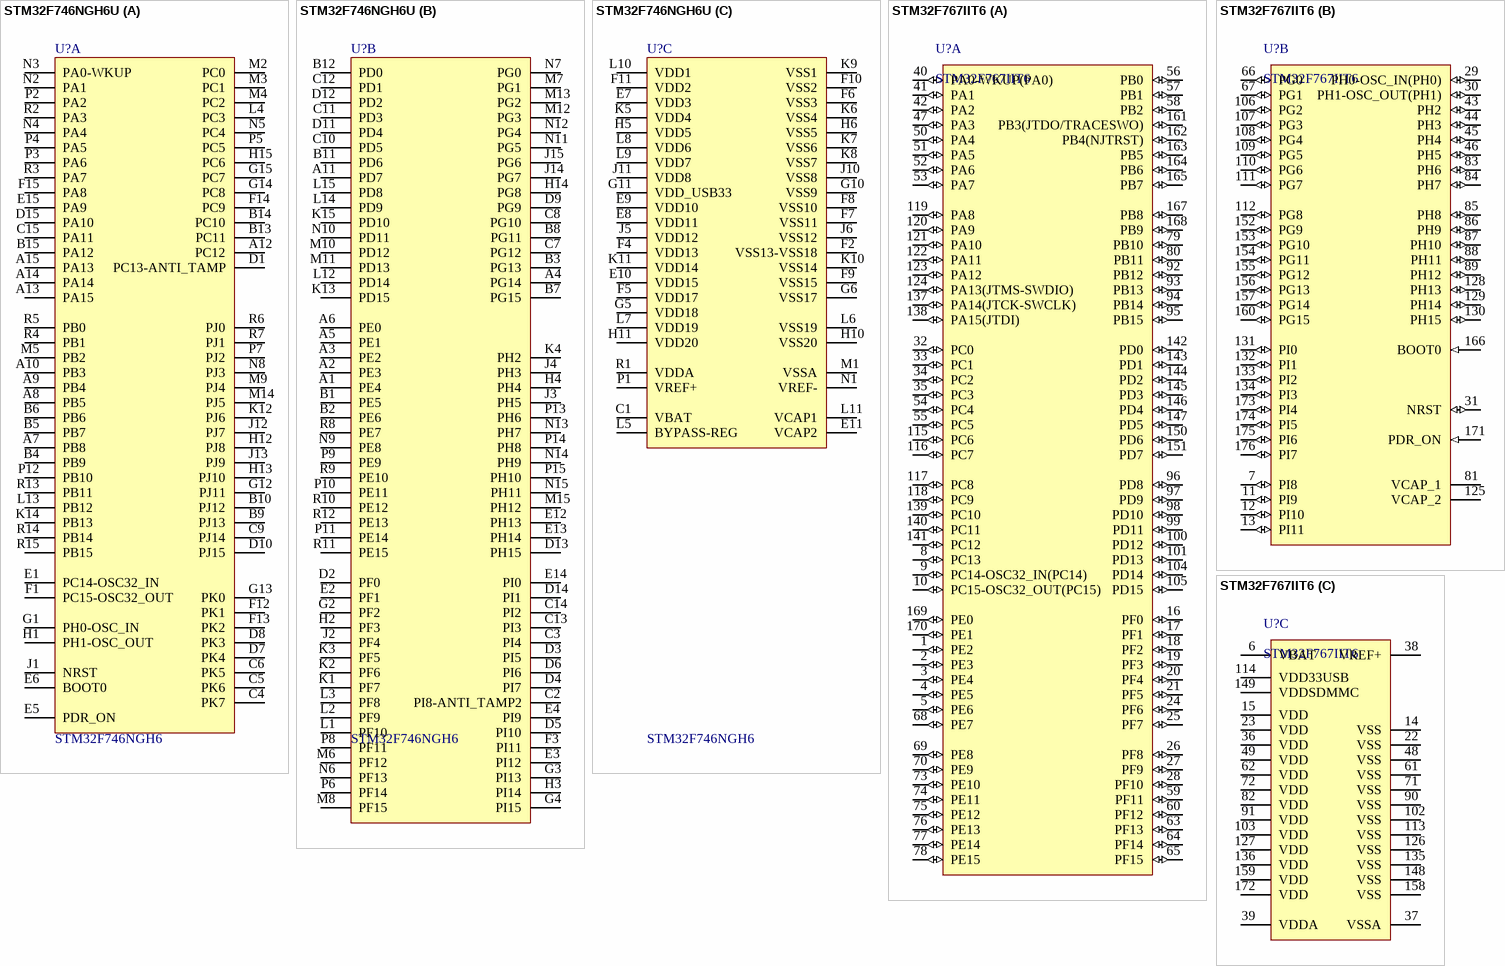
[diagram p6: symbols STM32F746NGH6U to STM32F767IIT6]